# Altium schematic symbol library majestic_LibAltium.SchLib: 368 symbols (part 1 of 3)
Pins are listed as number, name and electrical type; pins without a type are passive.

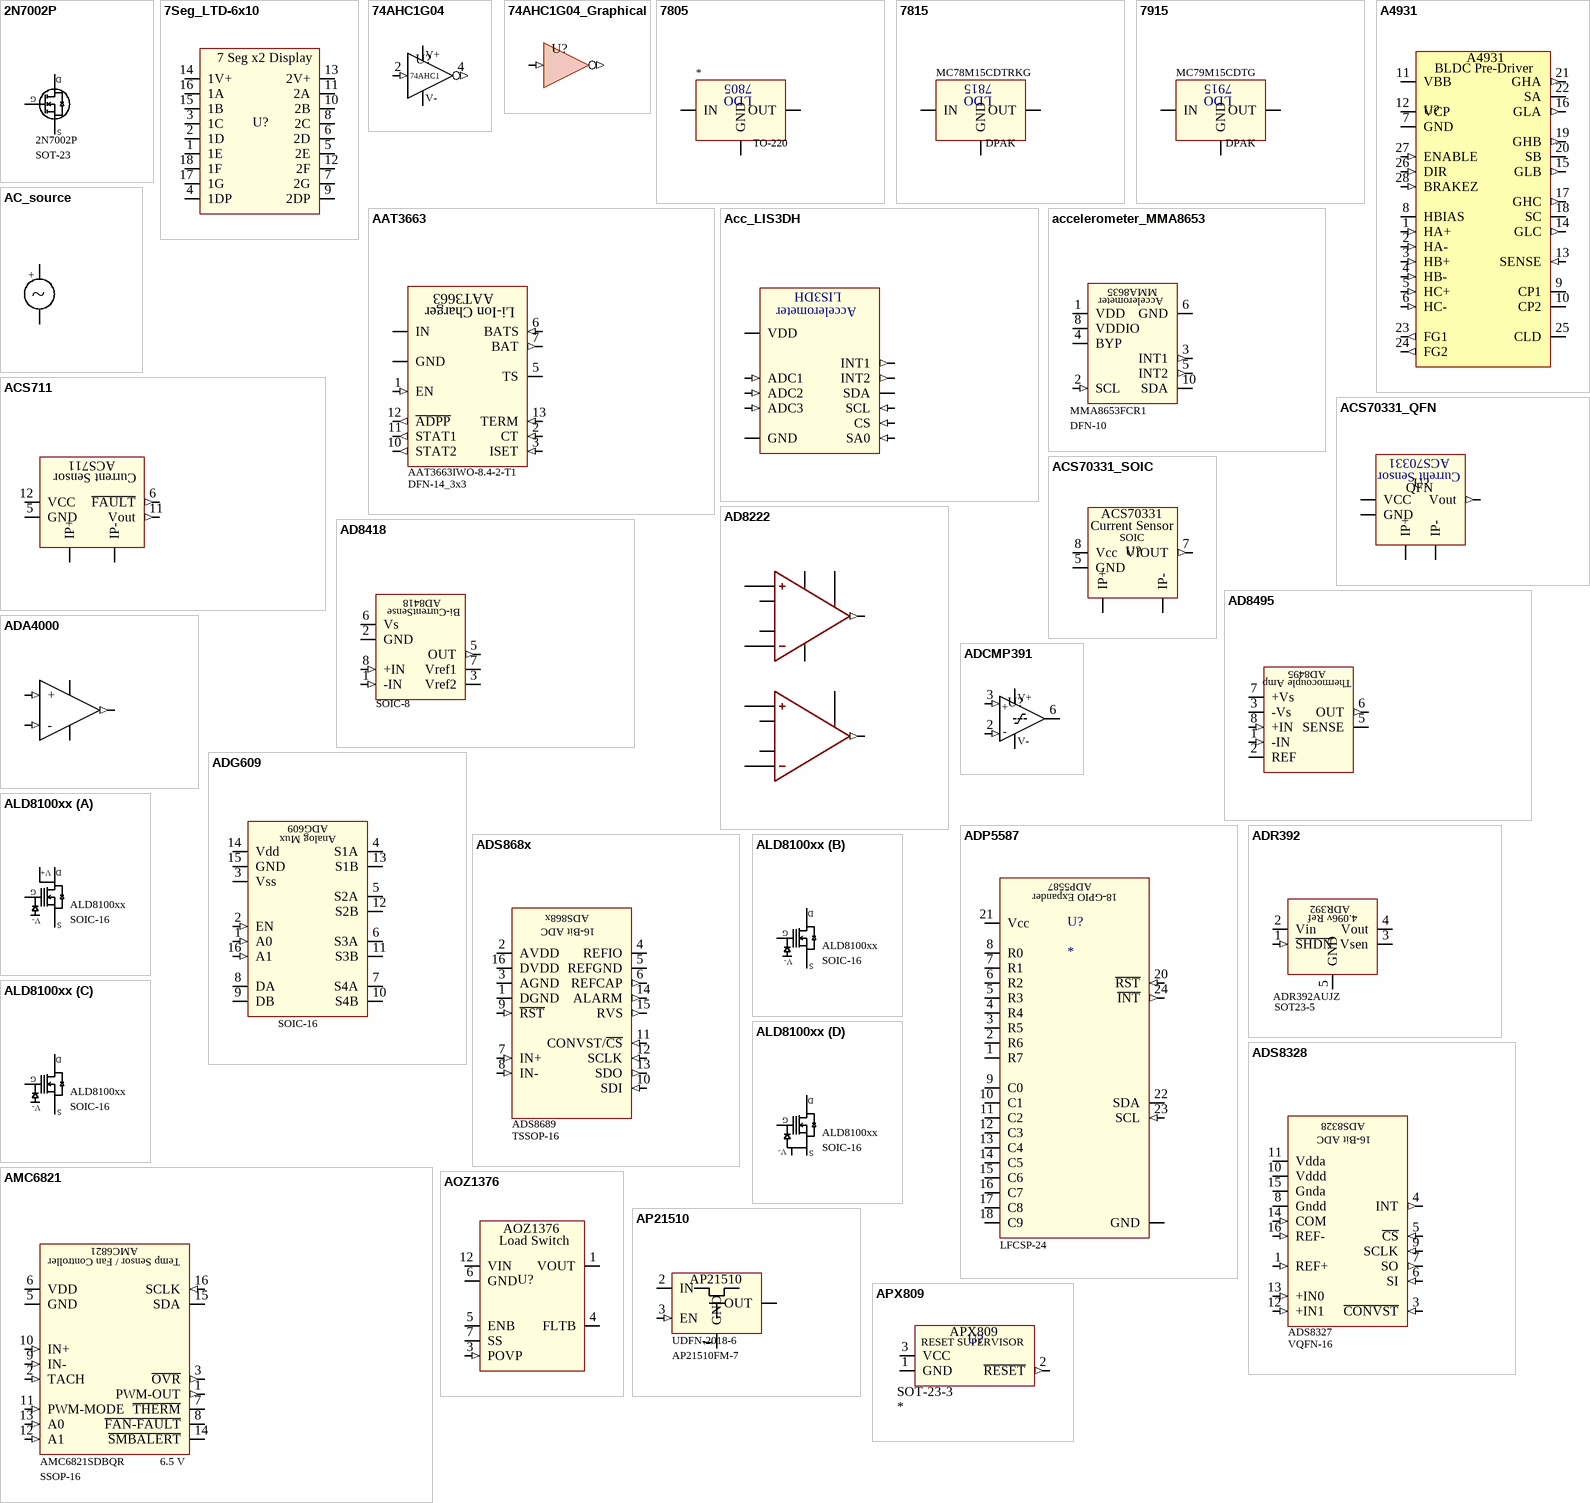
[diagram p0: symbols 2N7002P to APX809]

## 2N7002P
designator Q?  partNumber: 2N7002P
N-Channel MOSFET; Id: 360 mA; Vds: 60 V; Rds_on: 1
footprint SOT-23; pin to pad D>3 G>2 S>1
pins: D, G, S

## 7Seg_LTD-6x10
designator U?  (value not drawn)
Seven Segment Display; partNumber: LTD-6410G; Current Rating: 60 mA; Voltage Rating: *; roomCode: *
footprint 7segx2_0.56
pins: 1 1E, 2 1D, 3 1C, 4 1DP, 5 2E, 6 2D, 7 2G, 8 2C, 9 2DP, 10 2B, 11 2A, 12 2F, 13 2V+, 14 1V+, 15 1B, 16 1A, 17 1G, 18 1F
text: 7 Seg x2 Display

## 74AHC1G04
designator U?  (value not drawn)
Inverter; partNumber: 74AHC1G04GW,125; Voltage Rating: 2-5.5 V; Current Rating: 8 mA; roomCode: *
footprint SOT-353
pins: 2 IN (in), 3 GND (power), 4 Out (out), 5 Vcc (power)
text: V+; 74AHC1; V-

## 74AHC1G04_Graphical
designator U?  (value not drawn)  (graphical)
Graphical_Inverter
pins: 2 IN (in), 4 Out (out)

## 7805
designator U?
+5v LDO; Voltage Rating: *; PartNumber: *
footprint TO-220
footprint DPAK
pins: 1 IN (power), 2 GND (power), 3 OUT (power)
text: LDO

## 7815
designator U?  PartNumber: MC78M15CDTRKG
+15v LDO
footprint DPAK
pins: 1 IN (power), 2 GND (power), 3 OUT (power)
text: LDO

## 7915
designator U?  PartNumber: MC79M15CDTG
-15v LDO
footprint DPAK
pins: 1 IN (power), 2 GND (power), 3 OUT (power)
text: LDO

## A4931
designator U?  (value not drawn)
Allegra BLDC motor pre-driver; partNumber: 620-1214-1-ND; Voltage Rating: 8-37.5 V; Current Rating: *; roomCode: *
pins: 0 GND (power), 1 HA+ (in), 2 HA- (in), 3 HB+ (in), 4 HB- (in), 5 HC+ (in), 6 HC- (in), 7 GND (power), 8 HBIAS (power), 9 CP1, 10 CP2, 11 VBB (power), 12 VCP, 13 SENSE (in), 14 GLC (out), 15 GLB (out), 16 GLA (out), 17 GHC (out), 18 SC, 19 GHB (out), 20 SB, 21 GHA (out), 22 SA, 23 FG1 (out), 24 FG2 (out), 25 CLD, 26 DIR (in), 27 ENABLE (in), 28 BRAKEZ (in)
text: BLDC Pre-Driver

## AAT3663
designator U?  partNumber: AAT3663IWO-8.4-2-T1
Dual Li-Ion Charger; Voltage Rating: 13.2 V
footprint DFN-14_3x3
pins: 1 EN (in), 2 CT (in), 3 ISET (in), 4 GND (power), 5 TS (io), 6 BATS (in), 7 BAT (out), 8 IN (power), 9 IN (power), 10 STAT2 (out), 11 STAT1 (out), 12 ~{ADPP} (out), 13 TERM (in), 15 PAD (power)
text: Li-Ion Charger

## AC_source
designator ?
AC_Source
footprint 0402
pins: 1 V+ (power), 2 V- (power)
text: +; ~

## Acc_LIS3DH
designator U?, comment Accelerometer
footprint LGA-16
pins: 1 VDD_IO (power), 4 SCL (in), 5 GND (power), 6 SDA (io), 7 SA0 (in), 8 CS (in), 9 INT2 (out), 10 RESV, 11 INT1 (out), 12 GND (power), 13 ADC3 (in), 14 VDD (power), 15 ADC2 (in), 16 ADC1 (in)
text: LIS3DH

## accelerometer_MMA8653
designator U?  partNumber: MMA8653FCR1
10-Bit Accelerometer; Vmax: 3.3v
footprint DFN-10
pins: 1 VDD (power), 2 SCL (in), 3 INT1 (out), 4 BYP (power), 5 INT2 (out), 6 GND (power), 7 GND (power), 8 VDDIO (power), 9 GND (power), 10 SDA (io)
text: MMA8635; Accelerometer

## ACS711
designator U?
CurrentSensor; partNumber: ACS711KEXLT-15AB-T; Voltage Rating: 5.5 V; Current Rating: +/- 15 A; roomCode: *
footprint QFN-12_ACS711
pins: 1 IP+, 3 IP-, 5 GND (power), 6 ~{FAULT} (out), 11 Vout (out), 12 VCC (power)
text: Current Sensor

## ACS70331_QFN
designator U?  (value not drawn)
Current Sensor ±5A; partNumber: *; Voltage Rating: *; Current Rating: *; roomCode: *
footprint WQFN-12_ACS70331
footprint SOIC-8; pin to pad 6>5 8>5 9>5 10>7 11>5 12>8
pins: 1 IP+, 3 IP-, 5 GND (power), 6 GND, 8 GND, 9 GND, 10 Vout (out), 11 GND, 12 VCC (power)
text: ACS70331; Current Sensor; QFN

## ACS70331_SOIC
designator U?  (value not drawn)
Current Sensor +/- 5A; partNumber: ACS70331EOLCTR-005B3; Voltage Rating: 3.6V; Current Rating: +/- 5A; roomCode: *
footprint SOIC-8
pins: 1 IP+, 2 IP+, 3 IP-, 4 IP-, 5 GND (power), 7 VIOUT (out), 8 Vcc (power)
text: ACS70331; Current Sensor; SOIC

## AD8222
designator U?
Instrumentation Amplifier
footprint LFCSP-16
pins: 1 IN1-, 2 RG1_1, 3 RG1_2, 4 IN1+, 5 VS+ (power), 6 REF1, 7 REF2, 8 VS- (power), 9 IN2+, 10 RG2_1, 11 RG2_2, 12 IN2-, 13 VS- (power), 14 OUT2 (out), 15 OUT1 (out), 16 VS+ (power), 17 VS- (power)

## AD8418
designator ?
Bidirectional Current Sensor; partNumber: AD8418
footprint SOIC-8
footprint MSOP-8
pins: 1 -IN (in), 2 GND (power), 3 Vref2, 5 OUT (out), 6 Vs (power), 7 Vref1, 8 +IN (in)
text: Bi-CurrentSense

## AD8495
designator U?
Thermocouple Amplifier with CJC; partNumber: AD8495; Measurement Range: −25°C to +400°C; Operating Range: 0°C to 50°C
footprint RM-8
pins: 1 -IN (in), 2 REF (power), 3 -Vs (power), 5 SENSE, 6 OUT (out), 7 +Vs, 8 +IN (in)
text: Thermocouple Amp

## ADA4000
designator U?
OpAmp
footprint SOT23-5
pins: 1 Vout (out), 2 Vss (power), 3 + (in), 4 - (in), 5 Vdd (power)

## ADCMP391
designator U?  (value not drawn)
Comparator, rail to rail; partNumber: ADCMP391ARZ; Voltage Rating: 2.3 - 5.5 V; Current Rating: *; roomCode: *
footprint SOIC-8
pins: 2 In1- (in), 3 In1+ (in), 4 GND (power), 6 Out (oc), 7 Vcc (power)
text: +; V+; -; V-

## ADG609
designator U?
Analog MUX 4:1 Differential; partNumber: ADG609BRZ-REEL; Value: 30 Ω; Voltage Rating: 5 V; roomCode: *
footprint SOIC-16
pins: 1 A0 (in), 2 EN (in), 3 Vss (power), 4 S1A, 5 S2A, 6 S3A, 7 S4A, 8 DA, 9 DB, 10 S4B, 11 S3B, 12 S2B, 13 S1B, 14 Vdd (power), 15 GND (power), 16 A1 (in)
text: Analog Mux

## ADP5587
designator U?
18-GPIO Expander; partNumber: ADP5587ACPZ-R7; roomCode: *; Voltage Rating: *; Current Rating: *
footprint LFCSP-24
pins: 0 EPAD (power), 1 R7 (io), 2 R6 (io), 3 R5 (io), 4 R4 (io), 5 R3 (io), 6 R2 (io), 7 R1 (io), 8 R0 (io), 9 C0 (io), 10 C1 (io), 11 C2 (io), 12 C3 (io), 13 C4 (io), 14 C5 (io), 15 C6 (io), 16 C7 (io), 17 C8 (io), 18 C9 (io), 19 GND (power), 20 ~{RST} (in), 21 Vcc (power), 22 SDA (io), 23 SCL (in), 24 ~{INT} (out)

## ADR392
designator U?  partNumber: ADR392AUJZ
Voltage Reference
footprint SOT23-5
pins: 1 ~{SHDN} (in), 2 Vin (power), 3 Vsen (power), 4 Vout (power), 5 GND (power)
text: 4.096v Ref

## ADS868x
designator U?  partNumber: ADS8689
ADC - 16 Bit +/-12v
footprint TSSOP-16
pins: 1 DGND (power), 2 AVDD (power), 3 AGND (power), 4 REFIO (io), 5 REFGND (power), 6 REFCAP (out), 7 IN+ (in), 8 IN- (in), 9 ~{RST} (in), 10 SDI (in), 11 CONVST/~{CS} (in), 12 SCLK (in), 13 SDO (out), 14 ALARM (out), 15 RVS (out), 16 DVDD (power)
text: 16-Bit ADC

## ADS8328
designator U?  partNumber: ADS8327
ADC - 2 Channel, 16 Bit, 500 kHz
footprint VQFN-16
pins: 1 REF+ (in), 3 ~{CONVST} (in), 4 INT (out), 5 ~{CS} (in), 6 SI (in), 7 SO (out), 8 Gndd (power), 9 SCLK (in), 10 Vddd (power), 11 Vdda (power), 12 +IN1 (in), 13 +IN0 (in), 14 COM (in), 15 Gnda (power), 16 REF- (in)
text: 16-Bit ADC

## ALD8100xx
designator U?  partNumber: ALD8100xx
Supercap Auto Balance Fet; Voltage Rating: *
footprint SOIC-16
part A pins: 2 Dn1, 3 Gn1, 4 Sn1, 12 V+
part B pins: 13 Sn2, 14 Gn2, 15 Dn2
part C pins: 9 Sn3, 10 Gn3, 11 Dn3
part D pins: 1 IC1, 5 V-, 6 Dn4, 7 Gn4, 8 Sn4, 16 IC2
part A text: D; G; S
part B text: D; G; S
part C text: D; G; S
part D text: D; G; S

## AMC6821
designator U?  Voltage Rating: 6.5 V  partNumber: AMC6821SDBQR
Fan Controller / Temp Monitor; i2cAddress: *
footprint SSOP-16
pins: 1 PWM-OUT (out), 2 TACH (in), 3 ~{OVR} (out), 5 GND (power), 6 VDD (power), 7 ~{THERM} (io), 8 ~{FAN-FAULT} (oc), 9 IN- (in), 10 IN+ (in), 11 PWM-MODE (in), 12 A1 (in), 13 A0 (in), 14 ~{SMBALERT} (oc), 15 SDA (io), 16 SCLK (in)
text: Temp Sensor / Fan Controller

## AOZ1376
designator U?  (value not drawn)
Load Switch, 22V, 5A; partNumber: AOZ1376DI-01; Voltage Rating: 22 V; Current Rating: 5A; roomCode: *
footprint DFN_12_A0Z1376
pins: 0 PAD (power), 1 VOUT, 3 POVP (in), 4 FLTB (oc), 5 ENB, 6 GND (power), 7 SS, 12 VIN (power)
text: Load Switch

## AP21510
designator U?  Part Number: AP21510FM-7  (hidden comment: AP21510)
Load Switch; Voltage Rating: 2.7 - 5.5 V; Current Rating: 200 mA; Room Code: *; Value: Load Switch
footprint UDFN-2018-6
pins: 0 GND (power), 1 GND (power), 2 IN (power), 3 EN (in), 5 OUT (power), 6 OUT (power)

## APX809
designator U?
Voltage supervisor for reset; partNumber: APX809*; Room Code: *; Value: *
footprint SOT-23-3
pins: 1 GND (power), 2 ~{RESET} (out), 3 VCC (power)
text: RESET SUPERVISOR

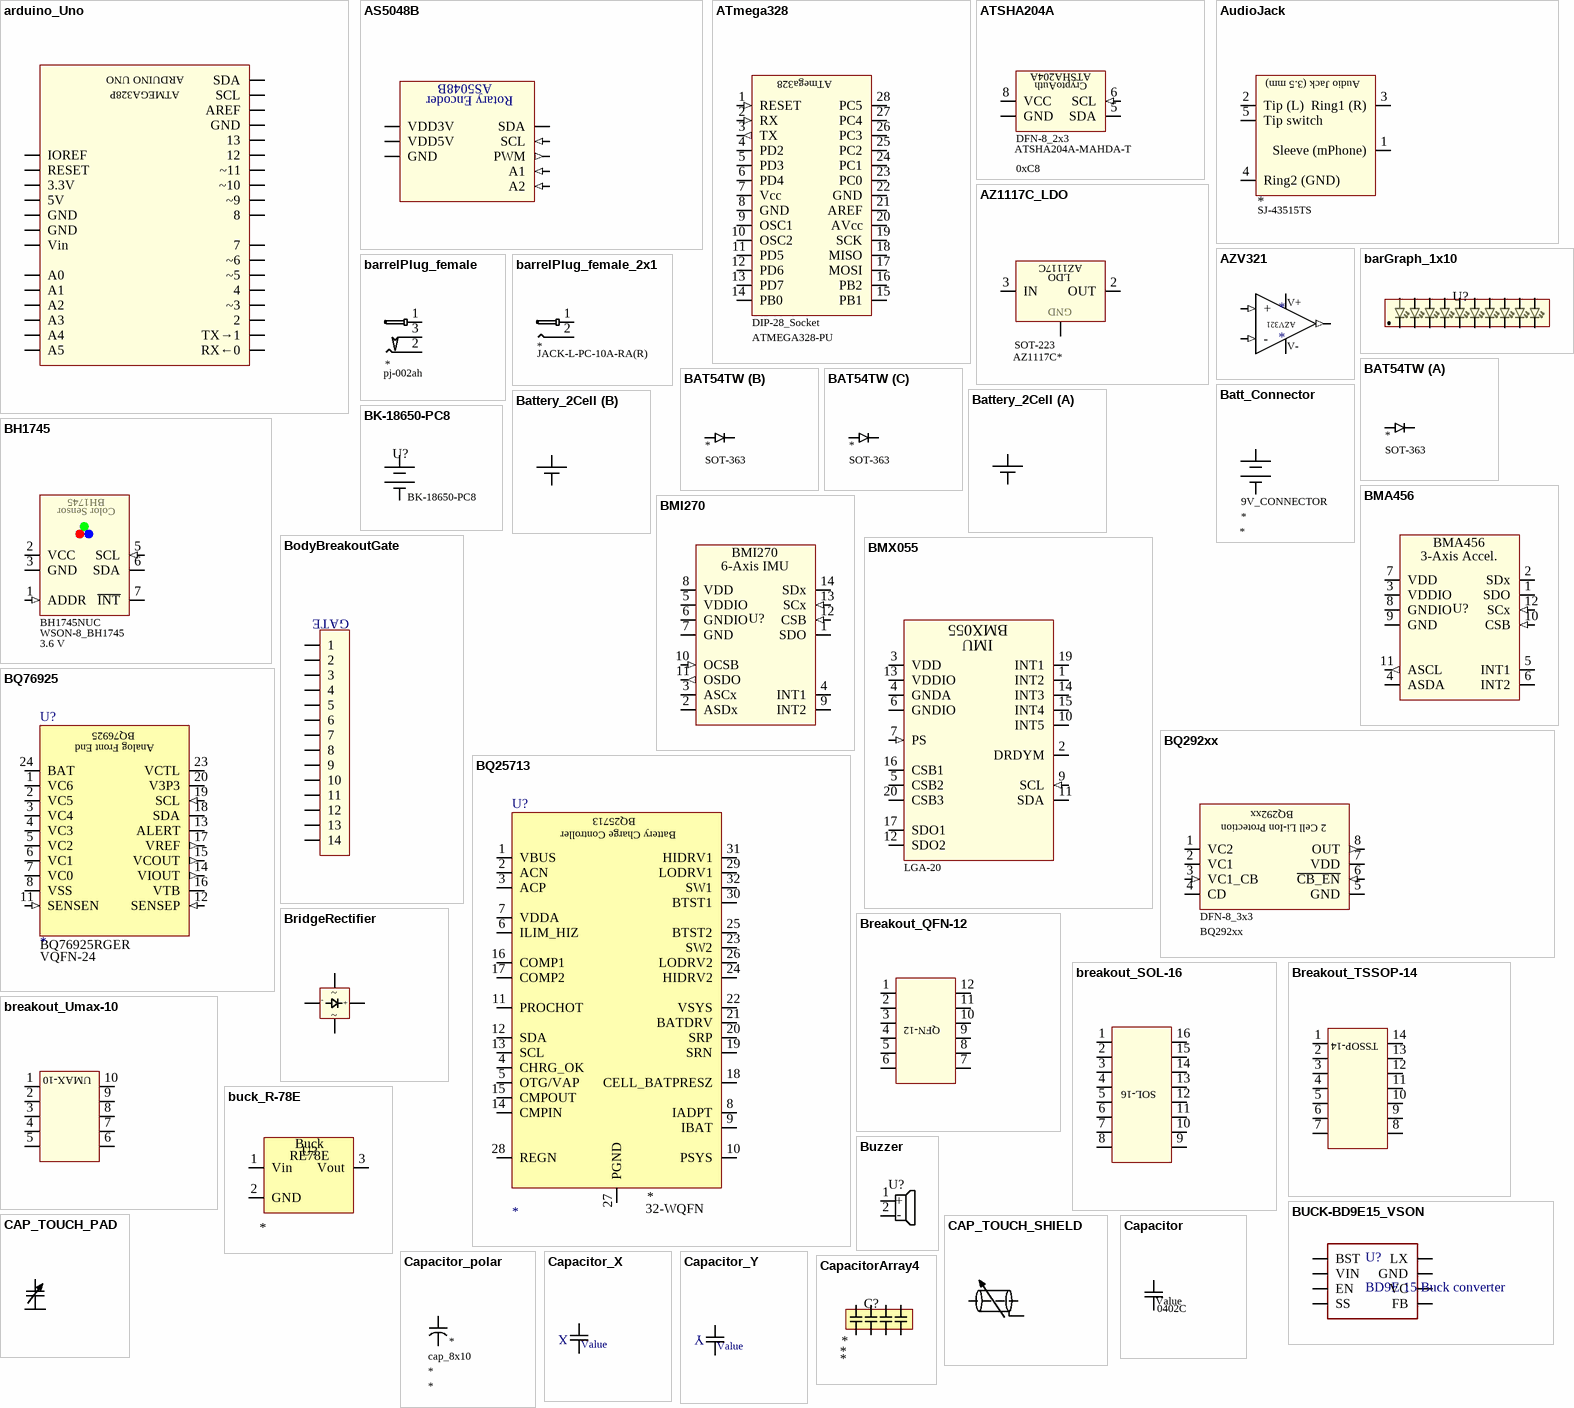
[diagram p1: symbols arduino_Uno to CapacitorArray4]

## arduino_Uno
designator U?
Arduino Uno; partNumber: *; Value: *; Voltage Rating: *
pins: 1 IOREF, 2 RESET, 3 3.3V, 4 5V, 5 GND, 6 GND, 7 Vin, 8 A0, 9 A1, 10 A2, 11 A3, 12 A4, 13 A5, 14 RX←0, 15 TX→1, 16 2, 17 ~3, 18 4, 19 ~5, 20 ~6, 21 7, 22 8, 23 ~9, 24 ~10, 25 ~11, 26 12, 27 13, 28 GND, 29 AREF, 30 SCL, 31 SDA
text: ARDUINO UNO; ATMEGA328P

## AS5048B
designator U?
Magnetic Rotary Encoder
footprint TSSOP-14
pins: 1 SDA (io), 2 SCL (in), 3 A2 (in), 4 A1 (in), 5 TEST_(GND) (power) "Test Pin (ground)", 6 TEST_(GND) (power), 7 TEST_(GND) (power), 8 TEST_(GND) (power), 9 TEST_(GND) (power), 10 TEST_(GND) (power), 11 VDD5V (power), 12 VDD3V (power), 13 GND (power), 14 PWM (out)
text: Rotary Encoder

## ATmega328
designator U?  partNumber: ATMEGA328-PU
Microcontroller
footprint DIP-28_Socket (IC Socket)
footprint DIP-28
pins: 1 RESET (in), 2 RX (in), 3 TX (out), 4 PD2 (io), 5 PD3 (io), 6 PD4 (io), 7 Vcc (power), 8 GND (power), 9 OSC1, 10 OSC2, 11 PD5 (io), 12 PD6 (io), 13 PD7 (io), 14 PB0 (io), 15 PB1 (io), 16 PB2 (io), 17 MOSI (io), 18 MISO (io), 19 SCK (io), 20 AVcc (power), 21 AREF, 22 GND (power), 23 PC0 (io), 24 PC1 (io), 25 PC2 (io), 26 PC3 (io), 27 PC4 (io), 28 PC5 (io)

## ATSHA204A
designator U?  partNumber: ATSHA204A-MAHDA-T  I2C Address: 0xC8
CryptoAuth Chip; Voltage Rating: 6 V
footprint DFN-8_2x3
pins: 0 DAP (power), 4 GND (power), 5 SDA (io), 6 SCL (in), 8 VCC (power)
text: CryptoAuth

## AudioJack
designator AJ?
3.5mm Audio Jack; PartNumber: *
footprint SJ-43515TS (Audio Jack)
pins: 1 Sleeve (mPhone), 2 Tip (L), 3 Ring1 (R), 4 Ring2 (GND), 5 Tip switch
text: Audio Jack (3.5 mm)

## AZ1117C_LDO
designator U?  partNumber: AZ1117C*
Linear Regulator; Vmax: 18v; Vout: *
footprint SOT-223
pins: 1 GND (power), 2 OUT (power), 3 IN (power), 4 Out (power)
text: AZ1117C; LDO

## AZV321
designator *
OpAmp Rail-to-Rail; partNumber: AZV321; Value: 1 MHz GBP; voltage Rating: 5.5 V; roomCode: *; currentRating: *
footprint SOT23-5
pins: 1 + (in), 2 V- (power), 3 - (in), 4 Out (out), 5 V+ (power)

## barGraph_1x10
designator U?  (value not drawn)
LED Bar graph; partNumber: SSA-LXB10GW-GF/LP; Voltage Rating: *; Current Rating: *; roomCode: *
footprint barGraph_1x10_SSA-LXB10
pins: 1, 2, 3, 4, 5, 6, 7, 8, 9, 10, 11, 12, 13, 14, 15, 16, 17, 18, 19, 20

## barrelPlug_female
designator J?
DC Power Jack; Current Rating: *; Voltage Rating: *; partNumber: *
footprint pj-002ah
footprint PJ-059A
footprint PJ-035-SMT (DC Power Jack 3 Conn CUI)
footprint JACK-L-PC-10A-RA(R) (50V,10A barrel jack)
pins: 1, 2, 3

## barrelPlug_female_2x1
designator ?
Current Rating: *; Voltage Rating: *; partNumber: *
footprint JACK-L-PC-10A-RA(R) (50V,10A barrel jack)
pins: 1, 2, 3 (power)

## BAT54TW
designator D?
Diode Array - 3x Schottky; Power Rating: *; partNumber: *
footprint SOT-363
part A pins: 1 A1, 6 C1
part B pins: 2 A2, 5 C2
part C pins: 3 A3, 4 C3

## Batt_Connector
designator Batt?
Battery Connector; partNumber: *; Voltage: *
footprint 9V_CONNECTOR
footprint JSTx02
footprint Coin-Cell_CR2032
footprint Battery_coinCell
footprint M02_100mil; pin to pad 0>1 1>2
footprint TerminalBlock_1x2 (OnShore); pin to pad 0>2
footprint JST-PH_smdRightAngle; pin to pad 0>1 1>2
pins: 0 - (power), 1 + (power)

## Battery_2Cell
designator B?
Two Cell Battery; partNumber: *; Value: *
footprint batteryHolder_1048 (Dual 18650 Battery holder)
part A pins: 1 + (power), 2 - (power)
part B pins: 3 + (power), 4 - (power)

## BH1745
designator U?  Voltage Rating: 3.6 V  partNumber: BH1745NUC
Color Sensor; Value: *
footprint WSON-8_BH1745 (Color Sensors)
pins: 0 EPAD (power), 1 ADDR (in), 2 VCC (power), 3 GND (power), 4 TEST (power), 5 SCL (in), 6 SDA (io), 7 ~{INT} (oc)

## BK-18650-PC8
designator U?  partNumber: BK-18650-PC8  (hidden comment: *)
4-cell Battery Holder; Voltage Rating: *; Current Rating: *; roomCode: *
footprint BK-18650-PC8
pins: 1 + (power), 2 - (power)

## BMA456
designator U?  (value not drawn)
Accelerometer, 3 Axis 2-16G; partNumber: BMA456; Voltage Rating: 3.3V; Current Rating: *; roomCode: *
footprint LGA-12_BMA456 (BOSCH, ACCEL 2-16G I2C/SPI 12LGA)
pins: 1 SDO (io), 2 SDx (io), 3 VDDIO (power), 4 ASDA (io), 5 INT1 (io), 6 INT2 (io), 7 VDD (power), 8 GNDIO (power), 9 GND (power), 10 CSB (in), 11 ASCL (out), 12 SCx (in)
text: 3-Axis Accel.

## BMI270
designator U?  (value not drawn)
IMU, 6-Axis; partNumber: BMI270; Voltage Rating: 3.3V; Current Rating: *; roomCode: *
footprint LGA-14
pins: 1 SDO (io), 2 ASDx (io), 3 ASCx (io), 4 INT1 (io), 5 VDDIO (power), 6 GNDIO (power), 7 GND (power), 8 VDD (power), 9 INT2 (io), 10 OCSB (in), 11 OSDO (out), 12 CSB (in), 13 SCx (in), 14 SDx (io)
text: 6-Axis IMU

## BMX055
designator U?
IMU, 9-axis; PartNumber: BMX055
footprint LGA-20 (BMX055)
pins: 1 INT2 (io), 2 DRDYM (io), 3 VDD (power), 4 GNDA (power), 5 CSB2, 6 GNDIO (power), 7 PS (in), 9 SCL (in), 10 INT5 (io), 11 SDA (io), 12 SDO2 (io), 13 VDDIO (power), 14 INT3 (io), 15 INT4 (io), 16 CSB1, 17 SDO1 (io), 19 INT1 (io), 20 CSB3
text: IMU

## BodyBreakoutGate
designator H?
footprint BodyBreakoutGate (Orpheus)
pins: 1, 2, 3, 4, 5, 6, 7, 8, 9, 10, 11, 12, 13, 14
text: GATE

## BQ292xx
designator U?  partNumber: BQ292xx
Automatic Cell Balance for 2-Series Cell Li-Ion Batteries; Voltage Rating: 16 V
footprint DFN-8_3x3
pins: 1 VC2, 2 VC1, 3 VC1_CB (in), 4 CD, 5 GND (power), 6 ~{CB_EN} (in), 7 VDD (power), 8 OUT (out)
text: 2 Cell Li-Ion Protection

## BQ25713
designator U?
Buck-Boost Battery Charge Controller; Voltage Rating: 3.5-24V; partNumber: *
footprint 32-WQFN
pins: 0 GND (power), 1 VBUS (power), 2 ACN (power), 3 ACP (power), 4 CHRG_OK (power), 5 OTG/VAP (power), 6 ILIM_HIZ (power), 7 VDDA (power), 8 IADPT (power), 9 IBAT (power), 10 PSYS (power), 11 PROCHOT (power), 12 SDA (power), 13 SCL (power), 14 CMPIN (power), 15 CMPOUT (power), 16 COMP1 (power), 17 COMP2 (power), 18 CELL_BATPRESZ (power), 19 SRN (power), 20 SRP (power), 21 BATDRV (power), 22 VSYS (power), 23 SW2 (power), 24 HIDRV2 (power), 25 BTST2 (power), 26 LODRV2 (power), 27 PGND (power), 28 REGN (power), 29 LODRV1 (power), 30 BTST1 (power), 31 HIDRV1 (power), 32 SW1 (power)
text: Battery Charge Controller

## BQ76925
designator U?  partNumber: BQ76925RGER
Battery Analog Front End; Voltage Rating: 4.2-26.4V
footprint VQFN-24
pins: 0 PAD (power), 1 VC6 (power), 2 VC5 (power), 3 VC4 (power), 4 VC3 (power), 5 VC2 (power), 6 VC1 (power), 7 VC0 (power), 8 VSS (power), 11 SENSEN (in), 12 SENSEP (in), 13 ALERT (oc), 14 VIOUT (out), 15 VCOUT (out), 16 VTB (power), 17 VREF (out), 18 SDA (io), 19 SCL (in), 20 V3P3 (power), 23 VCTL (power), 24 BAT (power)
text: Analog Front End

## Breakout_QFN-12
designator ?
footprint QFN-12
pins: 1, 2, 3, 4, 5, 6, 7, 8, 9, 10, 11, 12
text: QFN-12

## breakout_SOL-16
designator ?
footprint SOL-16
pins: 1, 2, 3, 4, 5, 6, 7, 8, 9, 10, 11, 12, 13, 14, 15, 16
text: SOL-16

## Breakout_TSSOP-14
designator ?
footprint TSSOP-14
pins: 1, 2, 3, 4, 5, 6, 7, 8, 9, 10, 11, 12, 13, 14
text: TSSOP-14

## breakout_Umax-10
designator ?
footprint uMax-10
pins: 1, 2, 3, 4, 5, 6, 7, 8, 9, 10
text: UMAX-10

## BridgeRectifier
designator B?, comment BrdigeRectifier
footprint BRIDGE_MDB
pins: 1 OUT1, 2 OUT-, 3 IN1, 4 IN2
text: ~; -; +

## BUCK-BD9E15_VSON
designator U?, comment BD9E 15 Buck converter
footprint VSON008X2030
pins: 1 BST, 2 VIN, 3 EN, 4 SS, 5 FB, 6 VC, 7 GND, 8 LX

## buck_R-78E
designator U?
Buck Converter; partNumber: RE78E; Voltage Rating: *; Current Rating: *; roomCode: *; Value: *
footprint buck_R-78E
pins: 1 Vin (power), 2 GND (power), 3 Vout (power)
text: Buck

## Buzzer
designator U?  (value not drawn)
Speaker; partNumber: *; Voltage Rating: *; Current Rating: *; roomCode: *
footprint WT-1205 (Buzzer)
footprint buzzer_CEM1203
pins: 1 +, 2 -

## CAP_TOUCH_PAD
designator S?  (no BOM)
Capacitive Sensing Pad; Value: *
footprint GARDENBYTE_CAPSENSE_10x13
footprint GARDENBYTE_CAPSENSE_13x58.27
pins: 1

## CAP_TOUCH_SHIELD
designator S?  (no BOM)
Shield for Capacitive Touch sensor; Value: *
footprint GARDENBYTE_CAPSENSE_10x13
footprint GARDENBYTE_CAPSENSE_13x58.27
footprint GARDENBYTE_CAPSENSE_17x84.27
pins: 1 (power)

## Capacitor
designator C?, comment Capacitors, non-polar  (value not drawn)
Capacitor, non-polar; Voltage Rating: *; Tolerance: *; PartNumber: *; Temperature Rating: *; Value: Value
footprint 0402C
footprint 0603C
footprint 0201C (Footprint not found)
footprint 1206C
footprint 0805C
footprint TH-ceramic
footprint cap_FK18
footprint CAP_THRU_15L2 (Vishay)
footprint M02x1_100mill_female
footprint 1210C
footprint 1812
pins: 1, 2

## Capacitor_polar
designator C?, comment Capacitor  (value not drawn)
Polarized Capacitors; Current Rating: *; roomCode: *; value: *; partNumber: *; Voltage Rating: *
footprint cap_8x10
footprint cap_RadialCan_6.3
footprint cap_radial_10mm (Footprint not found); pin to pad +>1 ->2
footprint CAP_6.3x7.8
footprint cap_radialCan_4.3x4.3; pin to pad +>1 ->2
footprint capThru_10x20
footprint CAP_THRU_5x10
footprint CAP_THRU_2.5x6.3mm
footprint CAP_THRU_8x11.5
footprint CAP_THRU_6.3x11.5
pins: +, -

## Capacitor_X
designator CX?
Value: Value
footprint 2220
pins: 1, 2
text: X

## Capacitor_Y
designator CY?, comment Capacitors, non-polar  (value not drawn)
Value: Value
footprint 1808
pins: 1, 2
text: Y

## CapacitorArray4
designator C?
Array of 4 Capacitors; Current Rating: *; roomCode: *; Voltage Rating: *; Value: *; partNumber: *
footprint 0612C4
pins: 1, 2, 3, 4, 5, 6, 7, 8

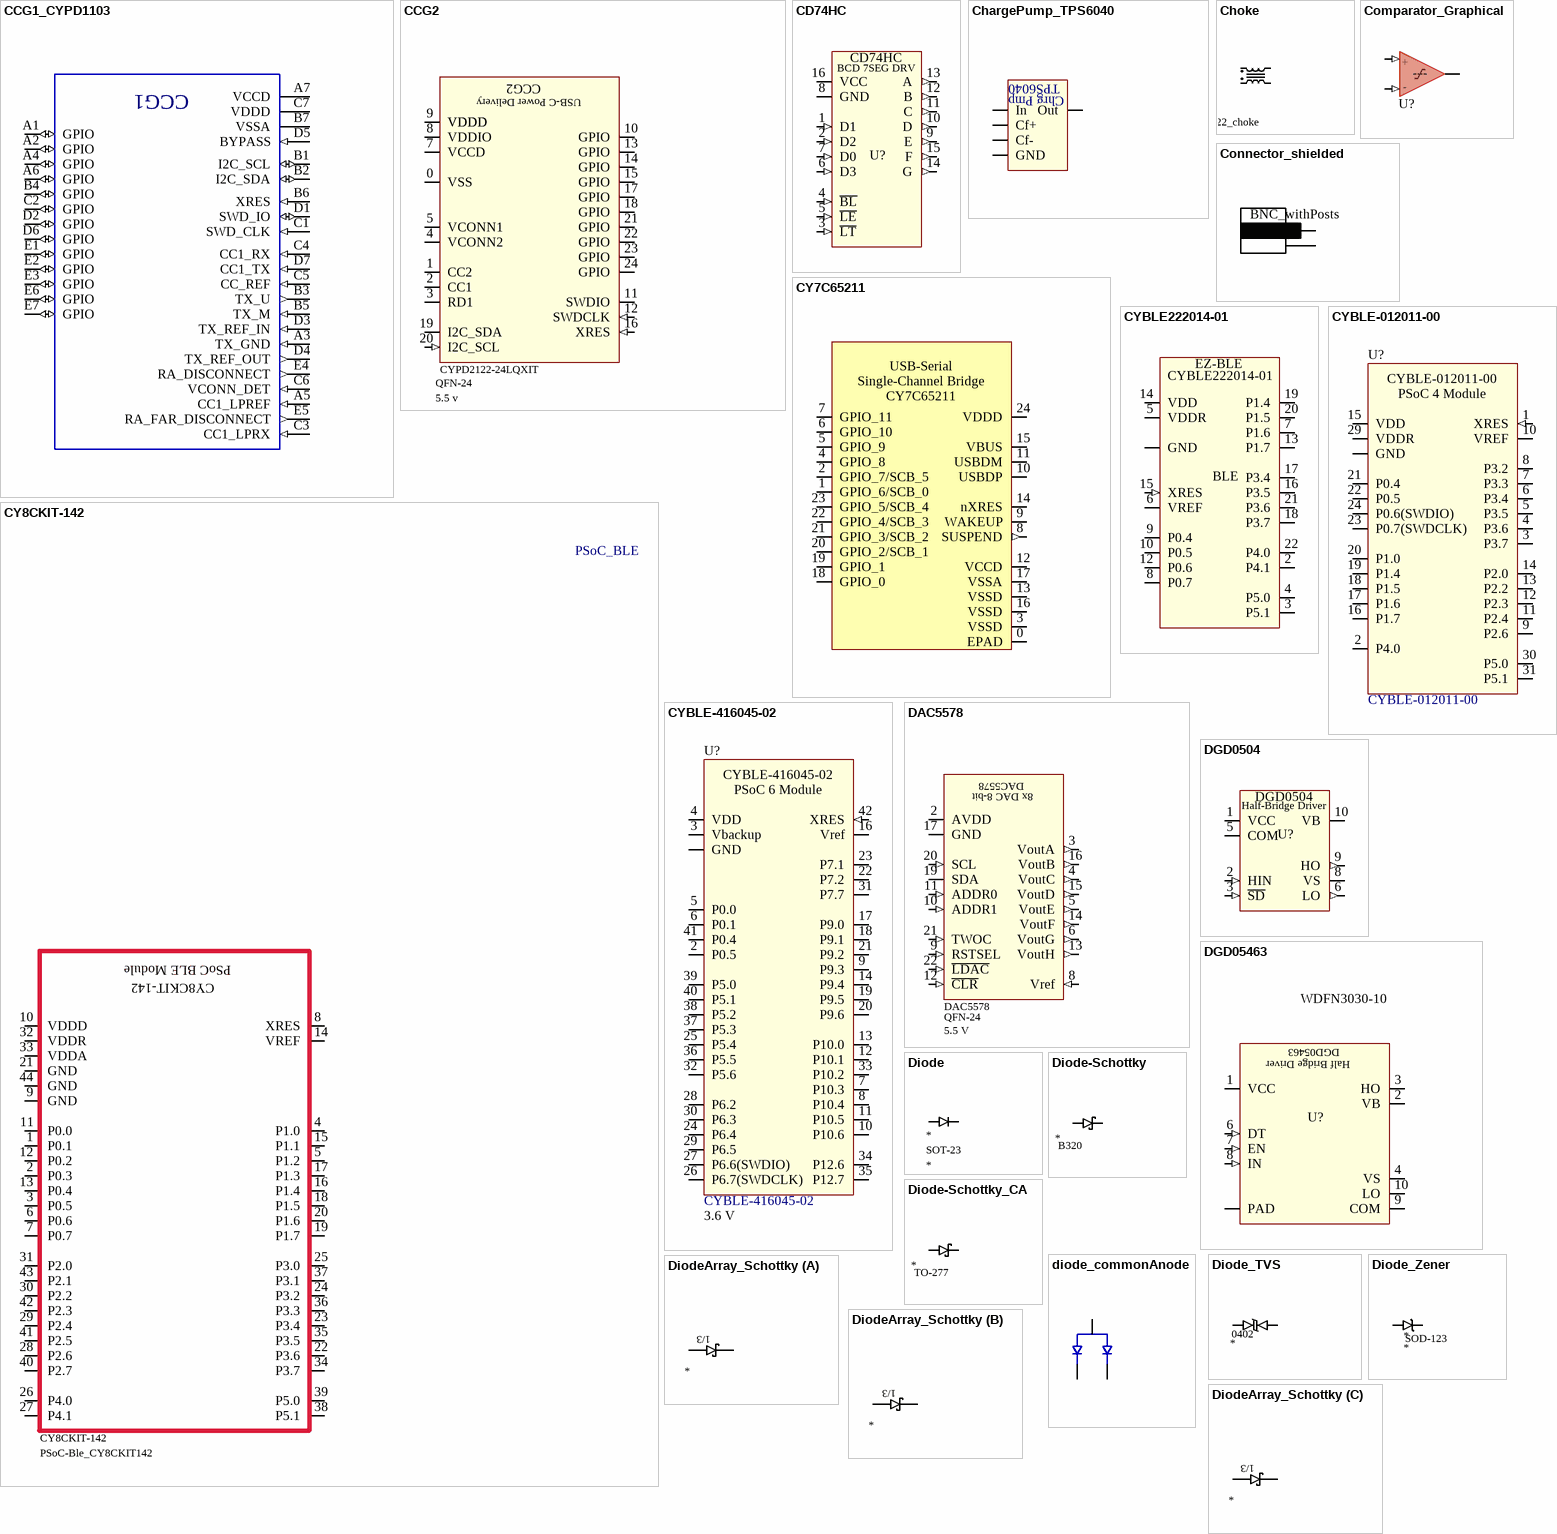
[diagram p2: symbols CCG1_CYPD1103 to DiodeArray_Schottky]

## CCG1_CYPD1103
designator U?, comment USB-C Controller  (value not drawn)
footprint WLCSP-35x0.4
pins: A1 GPIO (io), A2 GPIO (io), A3 TX_GND (in) "Connect to GND via a 2K 1% resistor", A4 GPIO (io), A5 CC1_LPREF (in) "Connect to the output of resistor devider from VDDD", A6 GPIO (io), A7 VCCD (power) "Regulated digital supply output. Connect a 1 to 1.6-µF capacitor. No   external source should be connected", B1 I2C_SCL (io), B2 I2C_SDA (io), B3 TX_U (out) "Should be connected to TX_M signal", B4 GPIO (io), B5 TX_M (in), B6 XRES (in), B7 VSSA (power) "Analog Ground", C1 SWD_CLK (in), C2 GPIO (io), C3 CC1_LPRX (in) "Configuration channel 1 RX signal for low power states", C4 CC1_RX (in), C5 CC_REF (in) "Data reference signal for CC lines", C6 VCONN_DET (in), C7 VDDD (power) "Power supply for both analog and digital sections", D1 SWD_IO (io), D2 GPIO (io), D3 TX_REF_IN (in) "Connect to TX_REF via a 2.4K 1% resistor", D4 TX_REF_OUT (out) "Reference signal generated by connecting internal currect source to two 1K external resistors", D5 BYPASS (in) "Bypass Cap", D6 GPIO (io), D7 CC1_TX (in), E1 GPIO (io), E2 GPIO (io), E3 GPIO (io), E4 RA_DISCONNECT (out) "Optional Control Signal to remove RA", E5 RA_FAR_DISCONNECT (out) "See datasheet", E6 GPIO (io), E7 GPIO (io)
text: CCG1

## CCG2
designator U?  partNumber: CYPD2122-24LQXIT  Voltage Rating: 5.5 v
USB-C Power Delivery
footprint QFN-24
pins: 0 VSS (power), 1 CC2, 2 CC1, 3 RD1, 4 VCONN2 (power), 5 VCONN1 (power), 6 VDDD (power), 7 VCCD (power), 8 VDDIO (power), 9 VDDD (power), 10 GPIO (io), 11 SWDIO (io), 12 SWDCLK (in), 13 GPIO (io), 14 GPIO (io), 15 GPIO (io), 16 XRES (in), 17 GPIO (io), 18 GPIO (io), 19 I2C_SDA (io), 20 I2C_SCL (in), 21 GPIO (io), 22 GPIO (io), 23 GPIO (io), 24 GPIO (io)

## CD74HC
designator U?  (value not drawn)
Seven segment display driver; partNumber: CD74HC; Voltage Rating: *; Current Rating: *; roomCode: *
footprint SOIC-16_50mil
pins: 1 D1 (in), 2 D2 (in), 3 ~{LT} (in), 4 ~{BL} (in), 5 ~{LE} (in), 6 D3 (in), 7 D0 (in), 8 GND (power), 9 E (out), 10 D (out), 11 C (out), 12 B (out), 13 A (out), 14 G (out), 15 F (out), 16 VCC (power)
text: BCD 7SEG DRV

## ChargePump_TPS6040
designator U?
footprint SOT23-5
pins: 1 Out (power), 2 In (power), 3 Cf-, 4 GND (power), 5 Cf+
text: TPS6040; Chrg Pmp

## Choke
designator CH?
Common Mode Choke; Imax: *; partNumber: *
footprint 2322_choke
pins: 1, 2, 3, 4

## Comparator_Graphical
designator U?  (value not drawn)  (graphical)
Graphical Comparator
pins: 2 In1- (in), 3 In1+ (in), 6 Out (oc)
text: +; -

## Connector_shielded
designator Conn?
BNC, Electrode, etc.
footprint BNC_withPosts
footprint BNC_Mini
pins: 1 Center, 2 Shield

## CY7C65211
designator U?
USB-Serial Bridge; partNumber: CY7C65211-24LTXI; voltageRating: *
footprint QFN-24
pins: 0 EPAD (power), 1 GPIO_6/SCB_0 (io), 2 GPIO_7/SCB_5 (io), 3 VSSD (power), 4 GPIO_8 (io), 5 GPIO_9 (io), 6 GPIO_10 (io), 7 GPIO_11 (io), 8 SUSPEND (out), 9 WAKEUP, 10 USBDP (io) "USB Data Signal Plus", 11 USBDM (io) "USB Data Signal Minus", 12 VCCD (power) "Decouple to ground with 1uF cap or connect to 1.8V supply", 13 VSSD (power), 14 nXRES "Chip reset, active low", 15 VBUS (power), 16 VSSD (power), 17 VSSA (power), 18 GPIO_0 (io), 19 GPIO_1 (io), 20 GPIO_2/SCB_1 (io), 21 GPIO_3/SCB_2 (io), 22 GPIO_4/SCB_3 (io), 23 GPIO_5/SCB_4 (io), 24 VDDD (power)
text: USB-Serial / Single-Channel Bridge / CY7C65211

## CY8CKIT-142
designator PSoC_BLE  partNumber: CY8CKIT-142
PSoC BLE Module - Red
footprint PSoC-Ble_CY8CKIT142 (PSoC BLE module)
pins: 1 P0.1 (io), 2 P0.3 (io), 3 P0.5 (io), 4 P1.0 (io), 5 P1.2 (io), 6 P0.6 (io), 7 P0.7 (io), 8 XRES, 9 GND (power), 10 VDDD (power), 11 P0.0 (io), 12 P0.2 (io), 13 P0.4 (io), 14 VREF, 15 P1.1 (io), 16 P1.4 (io), 17 P1.3 (io), 18 P1.5 (io), 19 P1.7 (io), 20 P1.6 (io), 21 GND (power), 22 P3.6 (io), 23 P3.4 (io), 24 P3.2 (io), 25 P3.0 (io), 26 P4.0 (io), 27 P4.1 (io), 28 P2.6 (io), 29 P2.4 (io), 30 P2.2 (io), 31 P2.0 (io), 32 VDDR (power), 33 VDDA (power), 34 P3.7 (io), 35 P3.5 (io), 36 P3.3 (io), 37 P3.1 (io), 38 P5.1 (io), 39 P5.0 (io), 40 P2.7 (io), 41 P2.5 (io), 42 P2.3 (io), 43 P2.1 (io), 44 GND (power)
text: PSoC BLE Module

## CYBLE222014-01
designator BLE  (value not drawn)
EZ-BLE Module, 4.2; partNumber: CYBLE-222014-01; Voltage Rating: 5.5 V; Current Rating: *; roomCode: *
footprint CYBLE222014-01
pins: 1 GND (power), 2 P4.1 (io), 3 P5.1 (io), 4 P5.0 (io), 5 VDDR (power), 6 VREF (power), 7 P1.6 (io), 8 P0.7 (io), 9 P0.4 (io), 10 P0.5 (io), 11 GND (power), 12 P0.6 (io), 13 P1.7 (io), 14 VDD (power), 15 XRES (in), 16 P3.5 (io), 17 P3.4 (io), 18 P3.7 (io), 19 P1.4 (io), 20 P1.5 (io), 21 P3.6 (io), 22 P4.0 (io)
text: EZ-BLE

## CYBLE-012011-00
designator U?  partNumber: CYBLE-012011-00  (hidden comment: *)
PSoC4 Bluetooth LE; Voltage Rating: 5.5V; Current Rating: *; roomCode: *
footprint CYBLE-012011-00
pins: 1 XRES (in), 2 P4.0 (io), 3 P3.7 (io), 4 P3.6 (io), 5 P3.5 (io), 6 P3.4 (io), 7 P3.3 (io), 8 P3.2 (io), 9 P2.6 (io), 10 VREF, 11 P2.4 (io), 12 P2.3 (io), 13 P2.2 (io), 14 P2.0 (io), 15 VDD (power), 16 P1.7 (io), 17 P1.6 (io), 18 P1.5 (io), 19 P1.4 (io), 20 P1.0 (io), 21 P0.4 (io), 22 P0.5 (io), 23 P0.7(SWDCLK) (io), 24 P0.6(SWDIO) (io), 25 GND (power), 26 GND (power), 27 GND (power), 28 GND (power), 29 VDDR (power), 30 P5.0 (io), 31 P5.1 (io)
text: PSoC 4 Module

## CYBLE-416045-02
designator U?  partNumber: CYBLE-416045-02  Voltage Rating: 3.6 V  (hidden comment: *)
PSoC6 EZ-BLE; Current Rating: *; roomCode: *
footprint CYBLE-416045-02
pins: 1 GND (power), 2 P0.5 (io), 3 Vbackup (power), 4 VDD (power), 5 P0.0 (io), 6 P0.1 (io), 7 P10.3 (io), 8 P10.4 (io), 9 P9.3 (io), 10 P10.6 (io), 11 P10.5 (io), 12 P10.1 (io), 13 P10.0 (io), 14 P9.4 (io), 15 GND (power), 16 Vref, 17 P9.0 (io), 18 P9.1 (io), 19 P9.5 (io), 20 P9.6 (io), 21 P9.2 (io), 22 P7.2 (io), 23 P7.1 (io), 24 P6.4 (io), 25 P5.4 (io), 26 P6.7(SWDCLK) (io), 27 P6.6(SWDIO) (io), 28 P6.2 (io), 29 P6.5 (io), 30 P6.3 (io), 31 P7.7 (io), 32 P5.6 (io), 33 P10.2 (io), 34 P12.6 (io), 35 P12.7 (io), 36 P5.5 (io), 37 P5.3 (io), 38 P5.2 (io), 39 P5.0 (io), 40 P5.1 (io), 41 P0.4 (io), 42 XRES (in), 43 GND (power)
text: PSoC 6 Module

## DAC5578
designator U?  partNumber: DAC5578  Voltage Rating: 5.5 V
8x DAC; Value: *
footprint QFN-24
pins: 0 Thermal, 2 AVDD (power), 3 VoutA (out), 4 VoutC (out), 5 VoutE (out), 6 VoutG (out), 8 Vref (in), 9 RSTSEL (in), 10 ADDR1 (in), 11 ADDR0 (in), 12 ~{CLR} (in), 13 VoutH (out), 14 VoutF (out), 15 VoutD (out), 16 VoutB (out), 17 GND (power), 19 SDA (io), 20 SCL (in), 21 TWOC (in), 22 ~{LDAC} (in)
text: 8x DAC 8-bit

## DGD0504
designator U?  (value not drawn)
Half Bridge Gate Driver; partNumber: DGD0504FN-7; Voltage Rating: 20 V; Current Rating: 290, 600 mA; roomCode: *
footprint WDFN-10
pins: 0 EPAD (power), 1 VCC (power), 2 HIN (in), 3 ~{SD} (in), 5 COM (power), 6 LO (out), 8 VS (power), 9 HO (out), 10 VB
text: Half-Bridge Driver

## DGD05463
designator U?  (value not drawn)
Half-Bridge Gate Driver; partNumber: DRV8701PRGER; Voltage Rating: 4.5 - 45V; Current Rating: *; roomCode: *
footprint WDFN3030-10
pins: 0 PAD (power), 1 VCC (power), 2 VB (power), 3 HO (power), 4 VS (power), 5 NC hidden, 6 DT (in), 7 EN (in), 8 IN (in), 9 COM (power), 10 LO (power)
text: Half Bridge Driver

## Diode
designator D?
General Purpose Diode; Voltage Rating: *; Current Rating: *; partNumber: *
footprint SOT-23; pin to pad Anode>2 Cathode>3
footprint UDFN-2
footprint MURS120T
footprint SOD-123
footprint M02x1_100mill_female; pin to pad Anode>1 Cathode>2
footprint POWERDI5
footprint DO-221AC
pins: Anode, Cathode

## Diode-Schottky
designator D?, comment Schottky Diode  (value not drawn)
Low Vf Schottky; Voltage Rating: *; Current Rating: *; partNumber: *
footprint B320 (Diode)
footprint TH-DO201AD
footprint SOD123W; pin to pad Anode>2 Cathode>1
footprint SOD-123FL; pin to pad Anode>2 Cathode>1
footprint DO-221AC
footprint DO-221AC - duplicate
footprint 0402D
footprint 0603D
footprint SOD-882
pins: Anode, Cathode

## Diode-Schottky_CA
designator D?, comment Schottky Diode  (value not drawn)
Low Vf Schottky - Common Anode; Voltage Rating: *; Current Rating: *; partNumber: *
footprint TO-277; pin to pad Anode>1 Anode2>2 Cathode>3
pins: Anode, Anode2, Cathode

## diode_commonAnode
designator D?, comment diode common anode
footprint SOT-23
pins: 1 Cathode1, 2 Cathode2, 3 Anode

## Diode_TVS
designator U?
TVS - Transient Voltage Suppression; Voltage Rating: *; partNumber: *
footprint 0402
pins: 1, 2

## Diode_Zener
designator D?, comment Zener Diode  (value not drawn)
roomCode: *; Voltage Rating: *; Power Rating: *; Tolerance: *; value: *; PartNumber: *
footprint SOD-123
footprint 2-UFDFN
footprint 0603D
footprint SOD323F
footprint 0402D
footprint SOD-882
footprint SOD-123FL; pin to pad Anode>2 Cathode>1
footprint CST2C
footprint SOD-962
pins: Anode, Cathode

## DiodeArray_Schottky
designator D?
3x Schottky Diodes; Pmax: 200 mW; partNumber: *
part A pins: Anode, Cathode
part B pins: Anode, Cathode
part C pins: Anode, Cathode
part A text: 1/3
part B text: 1/3
part C text: 1/3

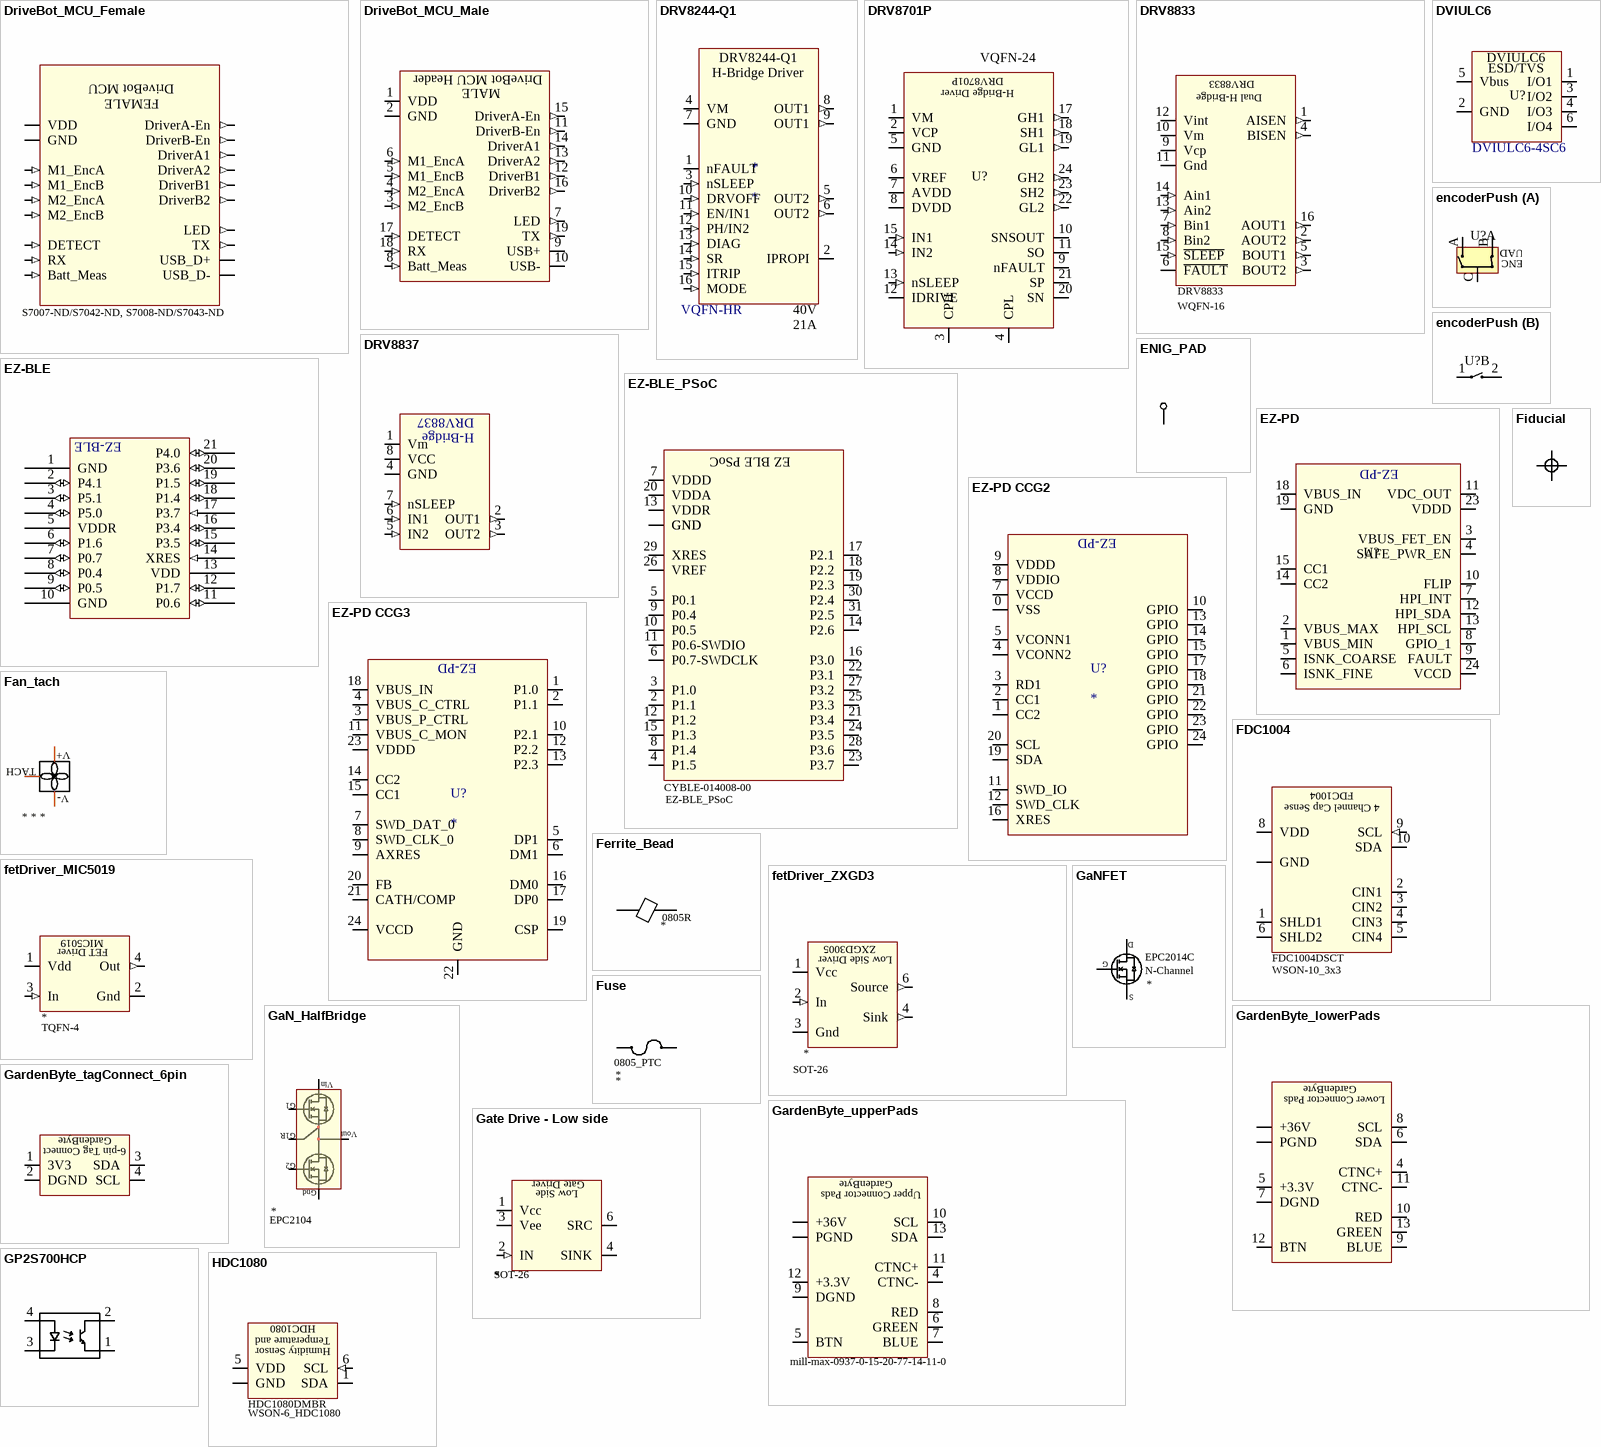
[diagram p3: symbols DriveBot_MCU_Female to HDC1080]

## DriveBot_MCU_Female
designator H?  HeaderPartNumber: S7007-ND/S7042-ND, S7008-ND/S7043-ND
Baseboard side of the DriveBot Controller Module
footprint DRIVEBOT_MCU_FEMALE
pins: 1 VDD (power), 2 GND (power), 3 M2_EncB (in), 4 M2_EncA (in), 5 M1_EncB (in), 6 M1_EncA (in), 7 LED (out), 8 Batt_Meas (in), 9 USB_D+ (io), 10 USB_D- (io), 11 DriverB-En (out), 12 DriverB1 (out), 13 DriverA2 (out), 14 DriverA1 (out), 15 DriverA-En (out), 16 DriverB2 (out), 17 DETECT (in), 18 RX (in), 19 TX (out)
text: DriveBot MCU; FEMALE

## DriveBot_MCU_Male
designator H?
Microcontroller side of the DriveBot. Modules wishing to serve as the microcontroller for DB shoud hook up to this component.; partNumber: MICA_00001
footprint DRIVEBOT_MCU_MALE
pins: 1 VDD (power), 2 GND (power), 3 M2_EncB (in), 4 M2_EncA (in), 5 M1_EncB (in), 6 M1_EncA (in), 7 LED (out), 8 Batt_Meas (in), 9 USB+ (io), 10 USB- (io), 11 DriverB-En (out), 12 DriverB1 (out), 13 DriverA2 (out), 14 DriverA1 (out), 15 DriverA-En (out), 16 DriverB2 (out), 17 DETECT (in), 18 RX (in), 19 TX (out)
text: DriveBot MCU Header; MALE

## DRV8244-Q1
designator *  Current Rating: 21A  Voltage Rating: 40V
DC Motor driver with integrated sense; partNumber: DRV8244HQRYJRQ1; Room Code: *
footprint VQFN-HR
pins: 1 nFAULT (oc), 2 IPROPI (io), 3 nSLEEP (in), 4 VM (power), 5 OUT2 (out), 6 OUT2 (out), 7 GND (power), 8 OUT1 (out), 9 OUT1 (out), 10 DRVOFF (in), 11 EN/IN1 (in), 12 PH/IN2 (in), 13 DIAG (in), 14 SR (in), 15 ITRIP (in), 16 MODE (in)
text: H-Bridge Driver

## DRV8701P
designator U?  (value not drawn)
Full-Bridge Gate Driver; partNumber: DRV8701PRGER; Voltage Rating: 4.5 - 45V; Current Rating: *; roomCode: *
footprint VQFN-24 (Footprint not found)
pins: 0 GND (power), 1 VM (power), 2 VCP (power), 3 CPH (power), 4 CPL (power), 5 GND (power), 6 VREF (power), 7 AVDD (power), 8 DVDD (power), 9 nFAULT (oc), 10 SNSOUT, 11 SO, 12 IDRIVE, 13 nSLEEP (in), 14 IN2 (in), 15 IN1 (in), 16 GND (power), 17 GH1 (out), 18 SH1 (out), 19 GL1 (out), 20 SN, 21 SP, 22 GL2 (out), 23 SH2 (out), 24 GH2 (out)
text: H-Bridge Driver

## DRV8833
designator f  partNumber: DRV8833
Dual H-Bridge Driver; value: N/A
footprint WQFN-16 (.65mm pitch)
pins: 0 Gnd (power), 1 AISEN (out), 2 AOUT2 (out), 3 BOUT2 (out), 4 BISEN (out), 5 BOUT1 (out), 6 ~{FAULT} (oc), 7 Bin1 (in), 8 Bin2 (in), 9 Vcp (power), 10 Vm (power), 11 Gnd (power), 12 Vint (power), 13 Ain2 (in), 14 Ain1 (in), 15 ~{SLEEP} (in), 16 AOUT1 (out)
text: Dual H-Bridge

## DRV8837
designator U?
H-bridge Motor Driver; partNumber: DRV8837CDSGR; Voltage Rating: 12 V; Current Rating: 1 A; roomCode: *
footprint WSON-8
pins: 1 Vm (power), 2 OUT1 (out), 3 OUT2 (out), 4 GND (power), 5 IN2 (in), 6 IN1 (in), 7 nSLEEP (in), 8 VCC (power), 9 GND (power)
text: H-Bridge

## DVIULC6
designator U?  partNumber: DVIULC6-4SC6  (hidden comment: *)
TVS Diodes; Voltage Rating: 17 V; Current Rating: *; roomCode: *
footprint SOT23-6
pins: 1 I/O1, 2 GND (power), 3 I/O2, 4 I/O3, 5 Vbus (power), 6 I/O4
text: ESD/TVS

## encoderPush
designator U?  (value not drawn)
Switch Quadrature encoder and Push Button; partNumber: PEC11R; Voltage Rating: *; Current Rating: *; roomCode: *
footprint encoder_PEC11R
part A pins: A, B, C
part B pins: 1, 2
part A text: QUAD; ENC

## ENIG_PAD
designator PAD?  (no BOM)
Value: *
footprint ENIG_Pad_2mm
pins: 1

## EZ-BLE
designator BLE, comment Bluethooth 4.0
footprint EZ-BLE
pins: 1 GND (power), 2 P4.1 (io), 3 P5.1 (io), 4 P5.0 (io), 5 VDDR (power), 6 P1.6 (io), 7 P0.7 (io), 8 P0.4 (io), 9 P0.5 (io), 10 GND (power), 11 P0.6 (io), 12 P1.7 (io), 13 VDD (power), 14 XRES (in), 15 P3.5 (io), 16 P3.4 (io), 17 P3.7 (in), 18 P1.4 (io), 19 P1.5 (io), 20 P3.6 (io), 21 P4.0 (io)

## EZ-BLE_PSoC
designator BLE?
CYBLE-014008-00; value: N/A; PartNumber: CYBLE-014008-00
footprint EZ-BLE_PSoC (PSoC 4 BLE)
pins: 1 GND (power), 2 P1.1 (io), 3 P1.0 (io), 4 P1.5 (io), 5 P0.1 (io), 6 P0.7-SWDCLK (io), 7 VDDD (power), 8 P1.4 (io), 9 P0.4 (io), 10 P0.5 (io), 11 P0.6-SWDIO (io), 12 P1.2 (io), 13 VDDR (power), 14 P2.6 (io), 15 P1.3 (io), 16 P3.0 (io), 17 P2.1 (io), 18 P2.2 (io), 19 P2.3 (io), 20 VDDA (power), 21 P3.4 (io), 22 P3.1 (io), 23 P3.7 (io), 24 P3.5 (io), 25 P3.3 (io), 26 VREF, 27 P3.2 (io), 28 P3.6 (io), 29 XRES, 30 P2.4 (io), 31 P2.5 (io), 32 GND (power)
text: EZ BLE PSoC

## EZ-PD
designator U?  (value not drawn)
USB Type-C Port Controller for Power / Sinks; partNumber: CYPD3177-24LQXQT; Voltage Rating: 3V ~ 24.5V; roomCode: *
footprint QFN-24
pins: 0 GND (power), 1 VBUS_MIN, 2 VBUS_MAX, 3 VBUS_FET_EN, 4 SAFE_PWR_EN, 5 ISNK_COARSE, 6 ISNK_FINE, 7 HPI_INT, 8 GPIO_1, 9 FAULT, 10 FLIP (oc), 11 VDC_OUT (power), 12 HPI_SDA, 13 HPI_SCL, 14 CC2 (io), 15 CC1 (io), 18 VBUS_IN (power), 19 GND (power), 22 VSS (power), 23 VDDD (power), 24 VCCD (power)

## EZ-PD CCG2
designator U?
USB Type-C Port Controller; partNumber: CYPD2122-24LQXIT; Voltage Rating: 1.71V ~ 5.5V; roomCode: *
footprint QFN-24
pins: 0 VSS, 1 CC2, 2 CC1, 3 RD1, 4 VCONN2, 5 VCONN1, 6 VDDD, 7 VCCD, 8 VDDIO, 9 VDDD, 10 GPIO, 11 SWD_IO, 12 SWD_CLK, 13 GPIO, 14 GPIO, 15 GPIO, 16 XRES, 17 GPIO, 18 GPIO, 19 SDA, 20 SCL, 21 GPIO, 22 GPIO, 23 GPIO, 24 GPIO
text: EZ-PD

## EZ-PD CCG3
designator U?
USB Type-C Port Controller; partNumber: CYPD3174-24LQXQ; Voltage Rating: 3V ~ 24.5V; roomCode: *
footprint QFN-24
pins: 0 GND, 1 P1.0, 2 P1.1, 3 VBUS_P_CTRL, 4 VBUS_C_CTRL, 5 DP1, 6 DM1, 7 SWD_DAT_0, 8 SWD_CLK_0, 9 AXRES, 10 P2.1, 11 VBUS_C_MON, 12 P2.2, 13 P2.3, 14 CC2, 15 CC1, 16 DM0, 17 DP0, 18 VBUS_IN, 19 CSP, 20 FB, 21 CATH/COMP, 22 GND, 23 VDDD, 24 VCCD
text: EZ-PD

## Fan_tach
designator F?  (mechanical)
3 Wire fan + tach (GRAPHICAL); package: *; Current Rating: *; partNumber: *; Voltage Rating: *
footprint Model Name (Footprint not found)
text: V+; TACH; V-

## FDC1004
designator U?  partNumber: FDC1004DSCT
Capacitive Sensor; Voltage Rating: *; Value: *
footprint WSON-10_3x3
pins: 0 DAP (power), 1 SHLD1, 2 CIN1, 3 CIN2, 4 CIN3, 5 CIN4, 6 SHLD2, 7 GND (power), 8 VDD (power), 9 SCL (in), 10 SDA (io)
text: 4 Channel Cap Sense

## Ferrite_Bead
designator FB?, comment FerriteBead  (value not drawn)
Inductive/Resistive; Voltage Rating: *; Current Rating: *; Room Code: *; PartNumber: *; Value: *
footprint 0402R
footprint 0805R
footprint 0603R
pins: 1, 2

## fetDriver_MIC5019
designator U?
Hi/Low Driver; Vmin: *; partNumber: *
footprint TQFN-4
pins: 1 Vdd (power), 2 Gnd (power), 3 In (in), 4 Out (out)
text: MIC5019; FET Driver

## fetDriver_ZXGD3
designator U?
Low side FET driver; Vmax: *; partNumber: *
footprint SOT-26
pins: 1 Vcc (power), 2 In (in), 3 Gnd (power), 4 Sink (out), 6 Source (out)
text: ZXGD3005; Low Side Driver

## Fiducial
designator X?  (no BOM)
Fiducial Marker
footprint Fiducial_1mm

## Fuse
designator F?
Fuse PTC/Quick act; Current Rating: *; Hold Current: *; partNumber: *; Voltage Rating: *; Trip Current: *
footprint 0805_PTC
footprint 2920
footprint PTC_RUEF900 (PTC Fuse)
footprint PTC_RUEF700
footprint PTC_MF-R135 (PTC Fuse)
footprint PTC_AHEF500
footprint 2410_F
footprint 0603R
pins: 1, 2

## GaN_HalfBridge
designator B?
Imax: *; Vmax: *; RdsOn: *; partNumber: *
footprint EPC2104
pins: G1, G1R, G2, Gnd (power), Vin, Vout (power)

## GaNFET
designator Q?  Type: N-Channel
Gallium Nitride FET; Id: *; Rds_on: *; Vds_Max: *; V_th: *; PartNumber: *
footprint EPC2015C (GaNFET)
footprint EPC2016C
footprint EPC2014C (BumpedDie - SolderBar5)
pins: D, D, G, S (power)

## GardenByte_lowerPads
designator ?  (no BOM)
ENIG pads for the GardenByte Lower Connector
footprint gardenByte_lowerPads
pins: 1 +36V, 2 +36V, 3 +36V, 4 CTNC+, 5 +3.3V, 6 SDA, 7 DGND, 8 SCL, 9 BLUE, 10 RED, 11 CTNC-, 12 BTN, 13 GREEN, 14 PGND, 15 PGND, 16 PGND
text: GardenByte; Lower Connector Pads

## GardenByte_tagConnect_6pin
designator H?  (no BOM)
Connector for Light Bar; PartNumber: TC2030-IDC-NL
footprint Tag_connect (TC2030-IDC-NL)
pins: 1 3V3 (power), 2 DGND (power), 3 SDA, 4 SCL
text: GardenByte; 6-pin Tag Connect

## GardenByte_upperPads
designator ?  partNumber: mill-max-0937-0-15-20-77-14-11-0
Spring Loaded pins for upper connector; Current Rating: 2A ea; Value: *; Tolerance: *; Voltage Rating: *; package: 16x Mill-Max
footprint gardenByte_upperPads
pins: 1 PGND, 2 PGND, 3 PGND, 4 CTNC-, 5 BTN, 6 GREEN, 7 BLUE, 8 RED, 9 DGND, 10 SCL, 11 CTNC+, 12 +3.3V, 13 SDA, 14 +36V, 15 +36V, 16 +36V
text: GardenByte; Upper Connector Pads

## Gate Drive - Low side
designator U?
N-Channel Low Side; Voltage Rating: *; partNumber: *; Current Rating: *
footprint SOT-26
pins: 1 Vcc (power), 2 IN (in), 3 Vee (power), 4 SINK (power), 6 SRC (power)
text: Gate Driver; Low Side

## GP2S700HCP
designator U?
Reflective Photointerruptor; partNumber: GP2S700HCP; Voltage Rating: 35V; roomCode: *
footprint GP2S700HCP
pins: 1 Emitter, 2 Collector, 3 Cathode, 4 Anode

## HDC1080
designator U?  partNumber: HDC1080DMBR
Temp and Humidity sensor; Voltage Rating: *; Value: *
footprint WSON-6_HDC1080
pins: 0 DAP (power), 1 SDA (io), 2 GND (power), 5 VDD (power), 6 SCL (in)
text: Temperature and; Humidity Sensor

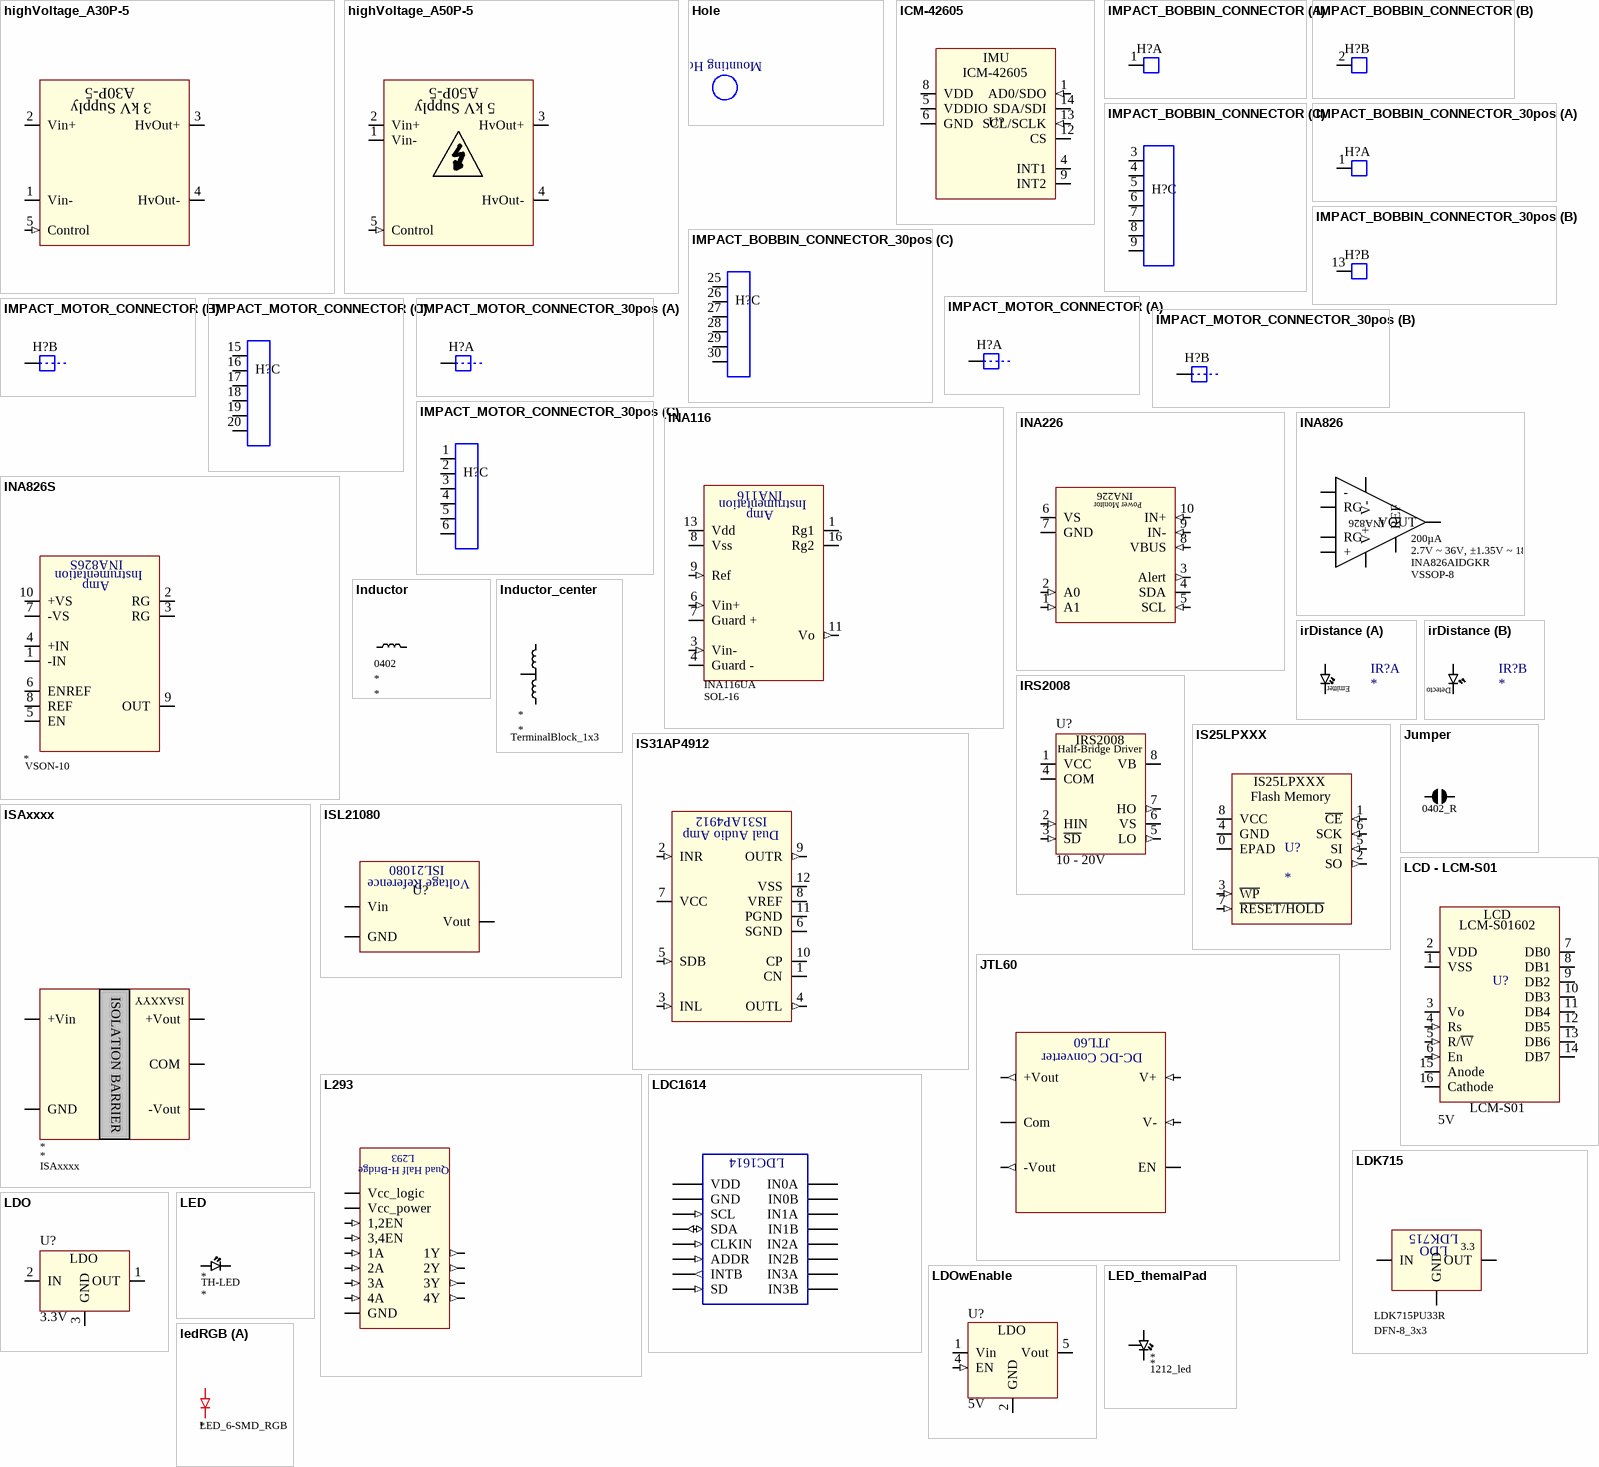
[diagram p4: symbols highVoltage_A30P-5 to ledRGB]

## highVoltage_A30P-5
designator HV?
3 kV Power Supply; partNumber: A30P-5; Vin_max: 5 V; Vout_max: 3 kV; Iout_max: 320 uA
footprint highVoltage_A30P-5
pins: 1 Vin- (power), 2 Vin+ (power), 3 HvOut+ (power), 4 HvOut- (power), 5 Control (in)
text: 3 kV Supply

## highVoltage_A50P-5
designator HV?
5 kV Power Supply; partNumber: A50P-5; Vin_max: 5 V; Vout_max: 5 kV; Iout_max: 320 uA
footprint highVoltage_A50P-5
pins: 1 Vin- (power), 2 Vin+ (power), 3 HvOut+ (power), 4 HvOut- (power), 5 Control (in)
text: 5 kV Supply

## Hole
designator ?  (no BOM)
Mounting Holes
footprint HOLE_M2.5_Clearance_2.75mm
footprint HOLE_M1.6_CLEARANCE_1.7mm
footprint Hole_10-32_clearance
footprint Hole_2.5mm
footprint Hole_3.4mm
footprint HOLE_M3_Clearance_3.4mm
footprint HOLE_M2_CLEARANCE_2.2mm
footprint hole_M4_Clearance_4.2mm
footprint HOLE_2mm (2mm Thru hole)
footprint Hole_2.75MM
text: Mounting Hole

## ICM-42605
designator U?  (value not drawn)
IMU 6-Axis; partNumber: ICM-42605; Voltage Rating: 3.6V; Current Rating: *; roomCode: *; i2cAddress: *
footprint LGA-14
pins: 1 AD0/SDO (in), 2 RESV, 3 RESV, 4 INT1 (io), 5 VDDIO (power), 6 GND (power), 7 RESV (power), 8 VDD (power), 9 INT2 (io), 10 RESV, 11 RESV, 12 CS, 13 SCL/SCLK (in), 14 SDA/SDI (io)
text: IMU

## IMPACT_BOBBIN_CONNECTOR
designator H?  (value not drawn)
Impact Connector for the motor FPC; partNumber: FH19SC-30S-0.5SH(09); Current Rating: 0.5 A; Voltage Rating: *; roomCode: *
footprint IMPACT_BOBBIN_CONNECTOR
part A pins: 1
part B pins: 2
part C pins: 3, 4, 5, 6, 7, 8, 9

## IMPACT_BOBBIN_CONNECTOR_30pos
designator H?  (value not drawn)
Impact Connector for the motor FPC; partNumber: FH19SC-30S-0.5SH(09); Current Rating: 0.5 A; Voltage Rating: *; roomCode: *
footprint FPC_30pos_FH19SC-30S-0.5SH
footprint FPC_30pos_FH19SC-30S-0.5SH_Contacts
part A pins: 1, 2, 3, 4, 5, 6, 7, 8, 9, 10, 11, 12
part B pins: 13, 14, 15, 16, 17, 18, 19, 20, 21, 22, 23, 24
part C pins: 25, 26, 27, 28, 29, 30

## IMPACT_MOTOR_CONNECTOR
designator H?  (value not drawn)
Impact Connector for the motor FPC; partNumber: 2004850520; Current Rating: 0.5 A; Voltage Rating: *; roomCode: *
footprint FPC_20pos_vert_2004850520
part A pins: 1, 2, 3, 4, 5, 6, 7
part B pins: 8, 9, 10, 11, 12, 13, 14
part C pins: 15, 16, 17, 18, 19, 20

## IMPACT_MOTOR_CONNECTOR_30pos
designator H?  (value not drawn)
Impact Connector for the motor FPC; partNumber: FH40-30S-0.5SV; Current Rating: 0.5 A; Voltage Rating: *; roomCode: *
footprint FH40-30S-0.5SV
footprint FH40-30S-0.5SV_Contacts
part A pins: 19, 20, 21, 22, 23, 24, 25, 26, 27, 28, 29, 30
part B pins: 7, 8, 9, 10, 11, 12, 13, 14, 15, 16, 17, 18
part C pins: 1, 2, 3, 4, 5, 6

## INA116
designator U?  PartNumber: INA116UA
Instrumentation Amp
footprint SOL-16
pins: 1 Rg1, 2 Guard -, 3 Vin- (in), 4 Guard -, 5 Guard +, 6 Vin+ (in), 7 Guard +, 8 Vss (power), 9 Ref (in), 11 Vo (out), 13 Vdd (power), 16 Rg2
text: Instrumentation; Amp

## INA226
designator U?
Power Monitor; Operating Temperature: *; partNumber: *; Voltage Rating: *; Output Current: *
footprint 10-VSSOP
pins: 1 A1 (in), 2 A0 (in), 3 Alert (out), 4 SDA (io), 5 SCL (in), 6 VS, 7 GND, 8 VBUS (in), 9 IN- (in), 10 IN+ (in)

## INA826
designator U?  partNumber: INA826AIDGKR  Voltage Rating: 2.7V ~ 36V, ±1.35V ~ 18V  Current Rating: 200µA
Instrumentation Amp
footprint VSSOP-8
pins: 1 - (power), 2 RG (power), 3 RG (power), 4 + (power), 5 V- (power), 6 REF (power), 7 VOUT (power), 8 V+ (power)

## INA826S
designator U?
Instrumentation Amp with shutdown; partNumber: *
footprint VSON-10
pins: 1 -IN, 2 RG, 3 RG, 4 +IN, 5 EN, 6 ENREF, 7 -VS (power), 8 REF, 9 OUT, 10 +VS (power)
text: Instrumentation; Amp

## Inductor
designator L?
Passive Inductor; Current Rating: *; DCR: *; roomCode: *; Value: *; PartNumber: *
footprint 0402
footprint 0603R
footprint Inductor_wurth_1mH
footprint 2512
footprint Wurth_Cube (WE-HCC SMD High Current Cube Inductor)
footprint Wurth_4.1x4.1 (74438356010)
footprint Indcutor_wurth7mm
footprint wurth_8070
footprint M02x1_100mill_female
footprint TerminalBlock_1x2 (OnShore)
footprint Coilcraft_XFL4020
footprint Inductor_8.5x8.0
footprint Inductor_10.7x10
footprint 1210
footprint inductor_13.5x12.6
footprint Inductor_13.5x12.5
footprint inductor_8x8
footprint inductor_10.8x10.16
footprint inductor_srn6045
footprint inductor_srr7045
footprint 1008_L
footprint Inductor_10x10_SRP
footprint inductor_10x10.4_ETQP5M
footprint Inductor_6.6x6.4 (SRP6060FA)
footprint inductor_worth_12.1x11.4 (7443320820)
footprint inductor_SRU1048
footprint Inductor_6x6
footprint inductor_RLS126
footprint 0805L
footprint Wurth_10.6x10.6 (WE-HCC SMD High Current Cube Inductor)
footprint INDUCTOR_6x6mm_VLS6045
pins: 1, 2

## Inductor_center
designator L?
Center Tapped; currentRating: *; partNumber: *; value: *
footprint TerminalBlock_1x3 (OnShore)
pins: 1, 2, 3

## irDistance
designator IR?
IR Emitter and Detector; partNumber: TCND5000; currentRating: 100 mA; roomCode: *; Value: *; voltageRating: *
footprint ir_TCND5000
part A pins: EA, EC
part B pins: DA, DC
part A text: Emitter
part B text: Detector

## IRS2008
designator U?  Voltage Rating: 10 - 20V  (hidden comment: *)
Half-Bridge Driver; partNumber: IRS2008; Current Rating: *; roomCode: *
footprint SOIC-8
pins: 1 VCC (power), 2 HIN (in), 3 ~{SD} (in), 4 COM (power), 5 LO (out), 6 VS (power), 7 HO (out), 8 VB

## IS25LPXXX
designator U?
IC Flash SPI/QUAD; Part Number: *; Value: *; Room Code: *
footprint WSON-8_6x5
pins: 0 EPAD (power), 1 ~{CE} (in), 2 SO (out), 3 ~{WP} (in), 4 GND (power), 5 SI (in), 6 SCK (in), 7 ~{RESET/HOLD} (in), 8 VCC (power)
text: Flash Memory

## IS31AP4912
designator U?
Dual Audio Amp
footprint QFN-12
pins: 1 CN, 2 INR (in), 3 INL (in), 4 OUTL (out), 5 SDB (in), 6 SGND (power), 7 VCC (power), 8 VREF (power), 9 OUTR (out), 10 CP, 11 PGND (power), 12 VSS (power)

## ISAxxxx
designator U?
Isolated DC-DC converter; Voltage Rating: *; Current Rating: *; partNumber: *; value: *
footprint ISAxxxx (Isolated DC-DC converter)
pins: 1 GND (power), 2 +Vin (power), 4 COM (power), 5 -Vout (power), 7 +Vout (power)
text: ISOLATION BARRIER; ISAXXYY

## ISL21080
designator U?  (value not drawn)
Voltage Reference; partNumber: *; Voltage Rating: *; Output Voltage: *; roomCode: *
footprint SOT-23-3
pins: 1 Vin, 2 Vout, 3 GND

## JTL60
designator U?
Voltage Rating: *; Value: *
footprint JTL6024D15
pins: 1 V+ (in), 2 V- (in), 3 EN (power), 4 +Vout (out), 5 Com (power), 6 -Vout (out)
text: DC-DC Converter

## Jumper
designator J?
Short two traces; PartNumber: *; Value: *
footprint 0805_R
footprint 0402_R
footprint 0603_R
pins: 1, 2 1

## L293
designator U?
Quadruple Half-H Driver
footprint DIP-16
pins: 1 1,2EN (in), 2 1A (in), 3 1Y (out), 4 GND (power), 5 GND (power), 6 2Y (out), 7 2A (in), 8 Vcc_power (power) "4.5v-36v motor power", 9 3,4EN (in), 10 3A (in), 11 3Y (out), 12 GND (power), 13 GND (power), 14 4Y (out), 15 4A (in), 16 Vcc_logic (power) "5v logic supply"
text: Quad Half H-Bridge

## LCD - LCM-S01
designator U?  Voltage Rating: 5V  (hidden comment: *)
LCD 16x2; partNumber: LCM-S01602DSF/A; Current Rating: *; roomCode: *
footprint LCM-S01 (LCD 16x2)
pins: 1 VSS (power), 2 VDD (power), 3 Vo (power), 4 Rs (in) "Register Select", 5 R/~{W} (in), 6 En (in), 7 DB0 (io), 8 DB1 (io), 9 DB2 (io), 10 DB3 (io), 11 DB4 (io), 12 DB5 (io), 13 DB6 (io), 14 DB7 (io), 15 Anode, 16 Cathode
text: LCD; LCM-S01602

## LDC1614
designator U?
footprint QFN-16
pins: 1 SCL (in), 2 SDA (io), 3 CLKIN (in), 4 ADDR (in), 5 INTB (out), 6 SD (in), 7 VDD (power), 8 GND (power), 9 IN0A, 10 IN0B, 11 IN1A, 12 IN1B, 13 IN2A, 14 IN2B, 15 IN3A, 16 IN3B

## LDK715
designator U?  partNumber: LDK715PU33R  Vout: 3.3
LDO high voltage
footprint DFN-8_3x3
pins: 1 IN (power), 4 GND (power), 8 OUT (power)
text: LDO

## LDO
designator U?  value 3.3V  (hidden comment: *)
Low Drop Out Regulator; RoomCode: *
footprint SOT-23-3
pins: 1 OUT (power), 2 IN (power), 3 GND (power)

## LDOwEnable
designator U?  value 5V  (hidden comment: *)
Linear Regulator with Enable; RoomCode: *
footprint SOT23-5
pins: 1 Vin (power), 2 GND (power), 4 EN (in), 5 Vout (power)
text: LDO

## LED
designator D?  (value not drawn)
Light Emitting Diode; Vf: *; HeaderPartNumber: *; Value: *; Voltage Rating: *; Current Rating: *; PartNumber: *; Color: *
footprint TH-LED
footprint T-1_led
footprint TH-LED-IR
footprint M02x1_100mill_female; pin to pad Anode>1 Cathode>2
footprint 1212_led_flat (Flat 1212 LED); pin to pad Anode>2 Cathode>1
footprint 3535_led
footprint 0603LED
footprint 0402LED
footprint 0805_LED
footprint TH-LED_spacer_7355
pins: Anode, Cathode

## LED_themalPad
designator D?
LED with thermal pad; Voltage Rating: *; Current Rating: *; Value: *; partNumber: *
footprint 1212_led (Domed 1212 LED); pin to pad Anode>1 Cathode>2 Thermal>0
footprint 1212_LED_Narrow (Narrow Lens on a Domed 1212 LED); pin to pad Anode>1 Cathode>2 Thermal>0
footprint 1212_LED_WIDE (Wide Lens on 1212 Domed LED); pin to pad Anode>1 Cathode>2 Thermal>0
pins: Anode, Cathode, Thermal

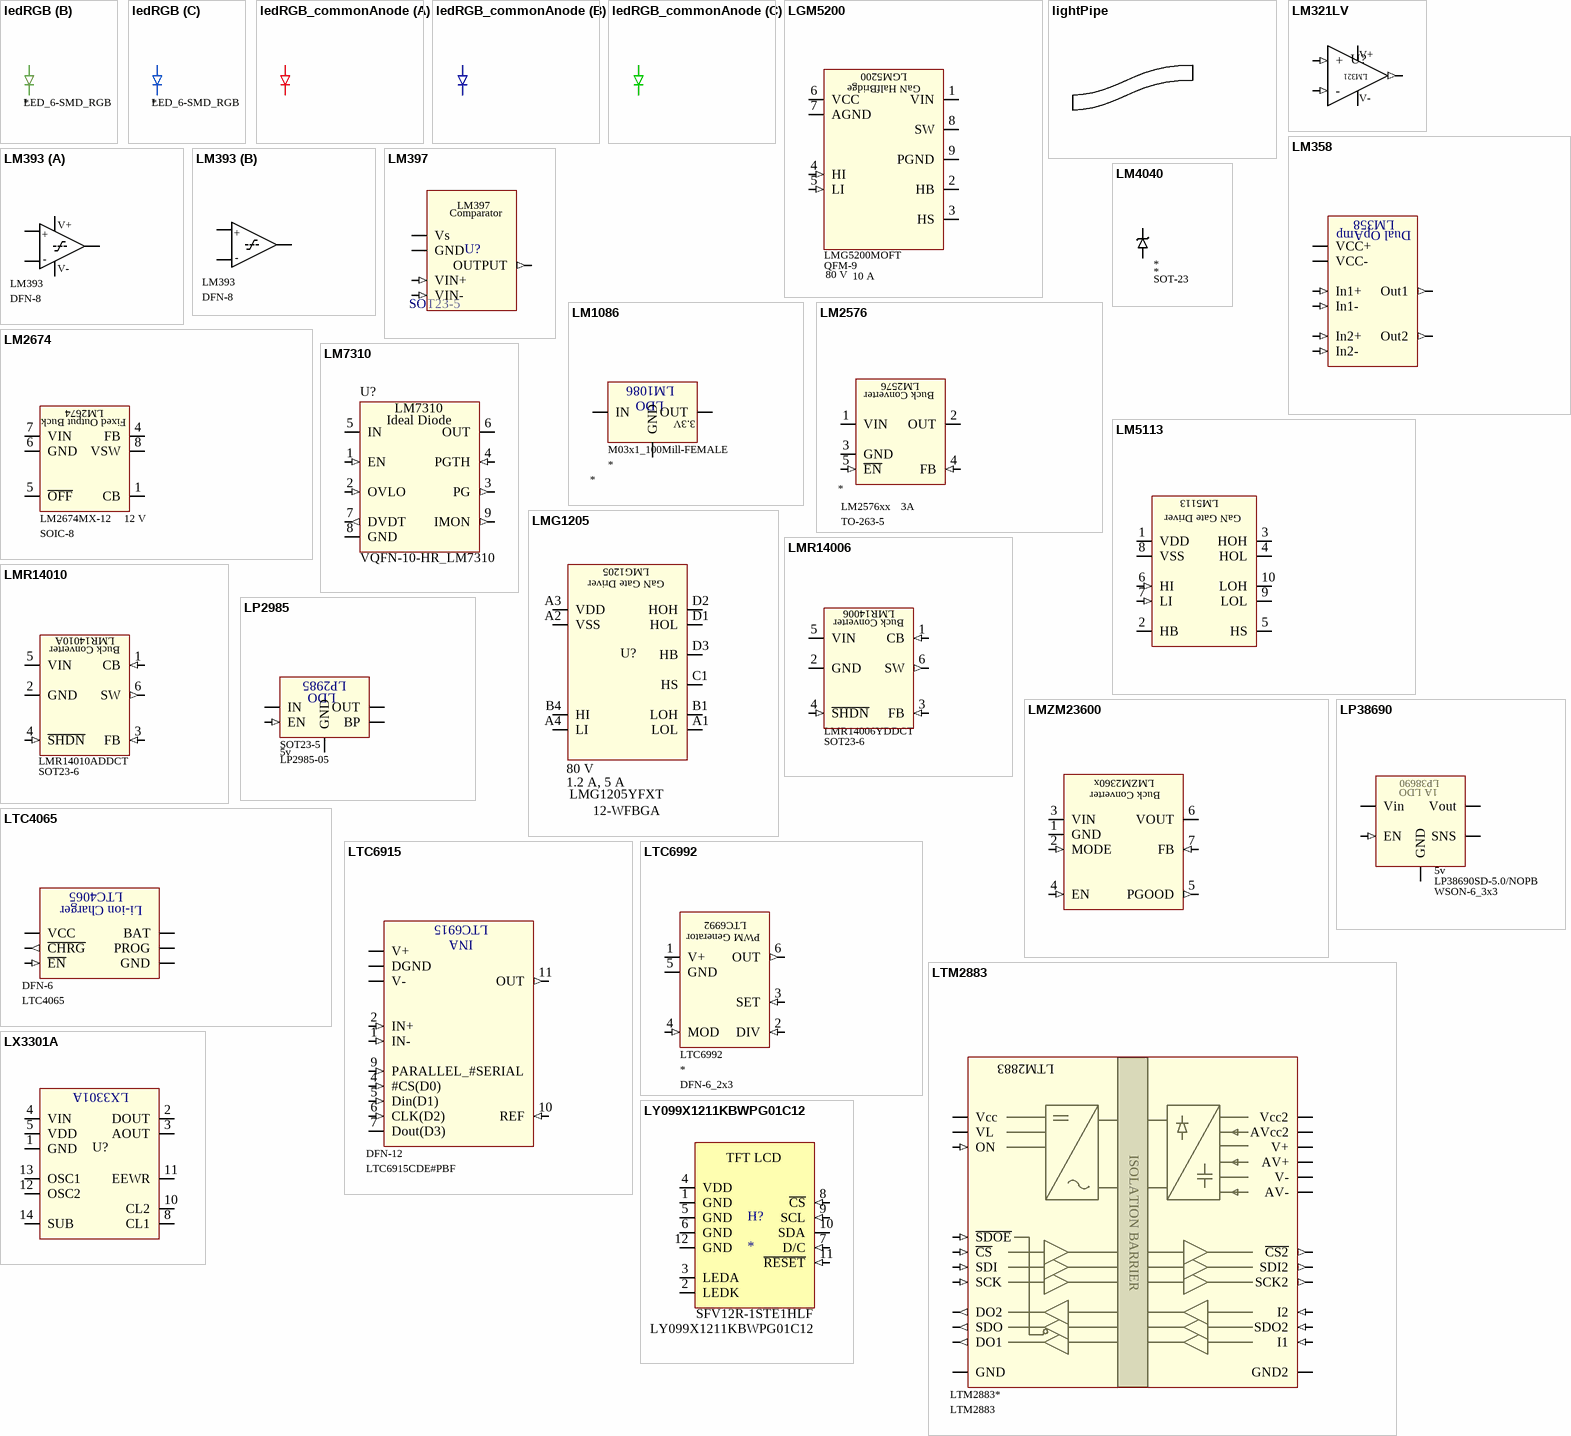
[diagram p5: symbols ledRGB to LY099X1211KBWPG01C12]

## ledRGB
designator D?
ledRGB; partNumber: *; Voltage Rating: *; Current Rating: *
footprint LED_6-SMD_RGB; pin to pad Ab>A1 Ag>A2 Ar>A3 Cb>C1 Cg>C2 Cr>C3
footprint LED_3.5x2.8x1.3; pin to pad Ab>4 Ag>5 Ar>6 Cb>3 Cg>2 Cr>1
part A pins: Ar Anode, Cr cathodeR
part B pins: Ag Anode, Cg cathodeG
part C pins: Ab Anode, Cb cathodeB

## ledRGB_commonAnode
designator D?
Common Anode RGB LED array; partNumber: SMLP34RGB2W3; Vf: 2.1-3.1 V; value: RGB
footprint PLCC-4; pin to pad Anode>1 CB>4 CG>3 CR>2
footprint 0404; pin to pad Anode>1 CB>3 CG>4 CR>2
footprint RGB_CLVBA_3.2x2.8; pin to pad Anode>2 CB>3 CG>4 CR>1
footprint 0606_RGB; pin to pad Anode>4 CB>3 CG>2 CR>1
part A pins: Anode, CR cathodeR
part B pins: CB cathodeB
part C pins: CG cathodeG

## LGM5200
designator U?  Current Rating: 10 A  Voltage Rating: 80 V  partNumber: LMG5200MOFT
GaN Half-Bridge
footprint QFM-9 (GaN HalfBridge)
pins: 1 VIN (power), 2 HB, 3 HS, 4 HI (in), 5 LI (in), 6 VCC (power), 7 AGND (power), 8 SW (power), 9 PGND (power)
text: GaN HalfBridge

## lightPipe
designator LP?
Optical Guid; partNumber: *
footprint VLP-XXXX (LightPipe)

## LM321LV
designator U?  (value not drawn)
Op Amp; partNumber: LM321LV; Voltage Rating: 6 V; Current Rating: 10 mA; roomCode: *
footprint SOT23-5
pins: 1 + (in), 2 V- (power), 3 - (in), 4 Out (out), 5 V+ (power)
text: LM321

## LM358
designator U?
Dual OpAmp
footprint DFN-8
pins: 1 Out1 (out), 2 In1- (in), 3 In1+ (in), 4 VCC- (power), 5 In2+ (in), 6 In2- (in), 7 Out2 (out), 8 VCC+ (power), 9 paddle (power)

## LM393
designator U?  PartNumber: LM393
Dual Comparator
footprint DFN-8
part A pins: 1 Out1, 2 In1-, 3 In1+, 4 Vcc- (power), 8 Vcc+ (power), 9 EPAD (power)
part B pins: 5 In2+, 6 In2-, 7 Out2
part A text: +; V+; -; V-
part B text: +; -

## LM397
designator U?  (value not drawn)
Comparator; PartNumber: LM397
footprint SOT23-5
pins: 1 VIN- (in), 2 GND (power), 3 VIN+ (in), 4 OUTPUT (out), 5 Vs (power)

## LM1086
designator U?
3.3V LDO; PartNumber: *; HeaderPartNumber: *
footprint TO-220; pin to pad 1>3 3>1
footprint M03x1_100Mill-FEMALE
pins: 1 IN (power), 2 OUT (power), 3 GND (power)
text: LDO; 3.3V

## LM2576
designator U?  partNumber: LM2576xx  Current Rating: 3A
Buck Regulator; Voltage Rating: 57 V; Value: *
footprint TO-263-5
pins: 0 TAB (power), 1 VIN (power), 2 OUT (power), 3 GND (power), 4 FB (in), 5 ~{EN} (in)
text: Buck Converter

## LM2674
designator U?  value 12 V  partNumber: LM2674MX-12
Buck Regulator 500 mA; Voltage Rating: 40 V; Current Rating: 500 mA
footprint SOIC-8
pins: 1 CB, 4 FB, 5 ~{OFF} (oc), 6 GND (power), 7 VIN (power), 8 VSW (power)
text: Fixed Output Buck

## LM4040
designator U?
Shunt Voltage Reference; Output Current: *; Cathode Current: *; Vr: *; partNumber: *
footprint SOT-23
pins: 1 Cathode, 2 Anode, 3 NC

## LM5113
designator U?
GaN Gate Driver; PartNumber: LM5113
footprint WSON-10
pins: 0 VSS (power), 1 VDD (power), 2 HB, 3 HOH, 4 HOL, 5 HS, 6 HI (in), 7 LI (in), 8 VSS (power), 9 LOL, 10 LOH

## LM7310
designator U?  (value not drawn)
Ideal Diode; partNumber: LM7310; Voltage Rating: 23 V; Current Rating: 5.5 A; roomCode: *
footprint VQFN-10-HR_LM7310
pins: 1 EN (in), 2 OVLO (in), 3 PG (out), 4 PGTH (in), 5 IN (power), 6 OUT (power), 7 DVDT (out), 8 GND (power), 9 IMON (out)

## LMG1205
designator U?  Current Rating: 1.2 A, 5 A  Voltage Rating: 80 V  partNumber: LMG1205YFXT  (hidden comment: *)
GaN Gate Driver; roomCode: *
footprint 12-WFBGA
pins: A1 LOL (power), A2 VSS (power), A3 VDD (power), A4 LI (power), B1 LOH (power), B4 HI (power), C1 HS (power), C4 VDD (power), D1 HOL (power), D2 HOH (power), D3 HB (power), D4 HS (power)

## LMR14006
designator U?  partNumber: LMR14006YDDCT
Buck Converter 600 mA; Current Rating: 600 mA; Voltage Rating: 40 V; Value: *
footprint SOT23-6
pins: 1 CB (in), 2 GND (power), 3 FB (in), 4 ~{SHDN} (in), 5 VIN (power), 6 SW (out)
text: Buck Converter

## LMR14010
designator U?  partNumber: LMR14010ADDCT
Buck Converter 1 A; Current Rating: 1 A; Voltage Rating: 40 V
footprint SOT23-6
pins: 1 CB (in), 2 GND (power), 3 FB (in), 4 ~{SHDN} (in), 5 VIN (power), 6 SW (out)
text: LMR14010A; Buck Converter

## LMZM23600
designator U?
Buck Converter 1 A; Current Rating: 1A; partNumber: *; Voltage Rating: *
footprint SIL0010A
pins: 0 (power), 1 GND (power), 2 MODE (in), 3 VIN (power), 4 EN (in), 5 PGOOD (out), 6 VOUT (power), 7 FB (in)
text: LMZM2360x; Buck Converter

## LP2985
designator ?  value 5v  PartNumber: LP2985-05
Linear Regulator; Vin_max: 16v
footprint SOT23-5
pins: 1 IN (power), 2 GND (power), 3 EN (in), 4 BP, 5 OUT (power)
text: LDO

## LP38690
designator U?  value 5v  partNumber: LP38690SD-5.0/NOPB
LDO Linear Regulator; Voltage Rating: 10 V; Current Rating: 1.0 A
footprint WSON-6_3x3
pins: 1 Vin (power), 2 GND (power), 3 EN (in), 4 Vout (power), 5 SNS, 6 Vin (power), 7 DAP (power)
text: 1A LDO

## LTC4065
designator U?  PartNumber: LTC4065
Li-ion Charger
footprint DFN-6
pins: 1 GND (power), 2 ~{CHRG} (out), 3 BAT (power), 4 VCC (power), 5 ~{EN} (in), 6 PROG, 7 GND (power)

## LTC6915
designator U?  partNumber: LTC6915CDE#PBF
Variable Gain Instrumentation Amp; Voltage Rating: 11 V
footprint DFN-12
pins: 1 IN- (in), 2 IN+ (in), 3 V- (power), 4 #CS(D0) (in), 5 Din(D1) (in), 6 CLK(D2) (in), 7 Dout(D3) (io), 8 DGND (power), 9 PARALLEL_#SERIAL (in), 10 REF (in), 11 OUT (out), 12 V+ (power), 13 V- (power)
text: INA

## LTC6992
designator ?  Part Number: LTC6992
PWM Timer Blox; Value: *
footprint DFN-6_2x3
pins: 1 V+ (power), 2 DIV (in), 3 SET (in), 4 MOD (in), 5 GND (power), 6 OUT (out), 7 GND (power)
text: PWM Generator

## LTM2883
designator U?  partNumber: LTM2883*
Isolation Module
footprint LTM2883 (uModule Isolator)
pins: A1 SDO (out), A2 DO2 (out), A3 SCK (in), A4 SDI (in), A5 ~{CS} (in), A6 ~{SDOE} (in), A7 ON (in), A8 VL (power), B1 DO1 (out), B2 GND (power), B3 GND (power), B4 GND (power), B5 GND (power), B6 GND (power), B7 Vcc (power), B8 Vcc (power), K1 I1 (in), K2 GND2 (power), K3 GND2 (power), K4 GND2 (power), K5 GND2 (power), K6 AVcc2, K7 AV-, K8 AV+, L1 SDO2 (in), L2 I2 (in), L3 SCK2 (out), L4 SDI2 (out), L5 ~{CS2} (out), L6 Vcc2 (power), L7 V- (power), L8 V+ (power)
text: ISOLATION BARRIER

## LX3301A
designator U?  (value not drawn)
Inductive Sensor Interface IC with Embedded MCU; partNumber: LX3301A; Voltage Rating: -7V ~ 20V; roomCode: *
footprint TSSOP-14
pins: 1 GND, 2 DOUT, 3 AOUT, 4 VIN, 5 VDD, 6 GND, 7 GND, 8 CL1, 9 GNDCL, 10 CL2, 11 EEWR, 12 OSC2, 13 OSC1, 14 SUB

## LY099X1211KBWPG01C12
designator H?  value LY099X1211KBWPG01C12  partNumber: SFV12R-1STE1HLF
TFT LCD 0.99" 128x115; Voltage Rating: *; Current Rating: *; Room Code: *
footprint SFV12R-1STE1HLF
pins: 1 GND (power), 2 LEDK, 3 LEDA, 4 VDD (power), 5 GND (power), 6 GND (power), 7 D/C (in), 8 ~{CS} (in), 9 SCL (in), 10 SDA (io), 11 ~{RESET} (in), 12 GND (power)
text: TFT LCD

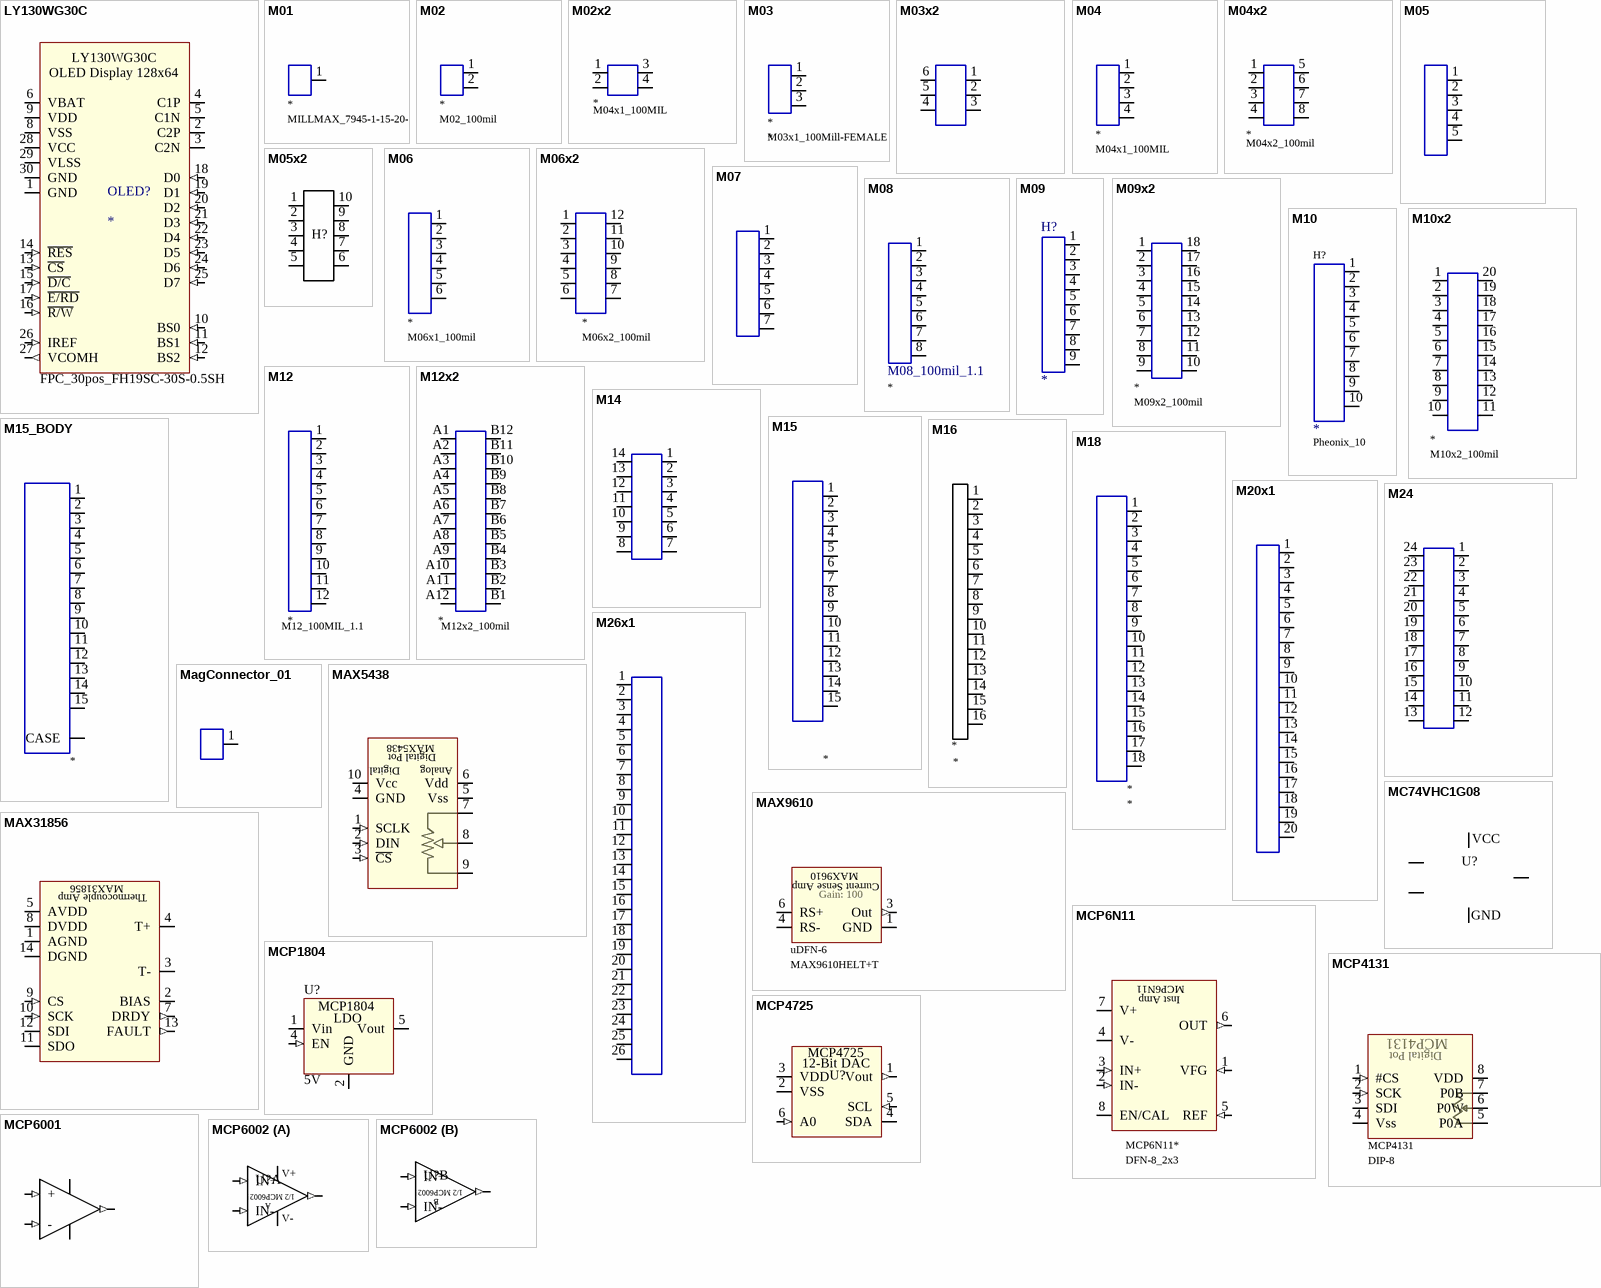
[diagram p6: symbols LY130WG30C to MCP6002]